# Altium schematic symbol library myLib.SchLib: 153 symbols (part 1 of 2)
Pins are listed as number, name and electrical type; pins without a type are passive.

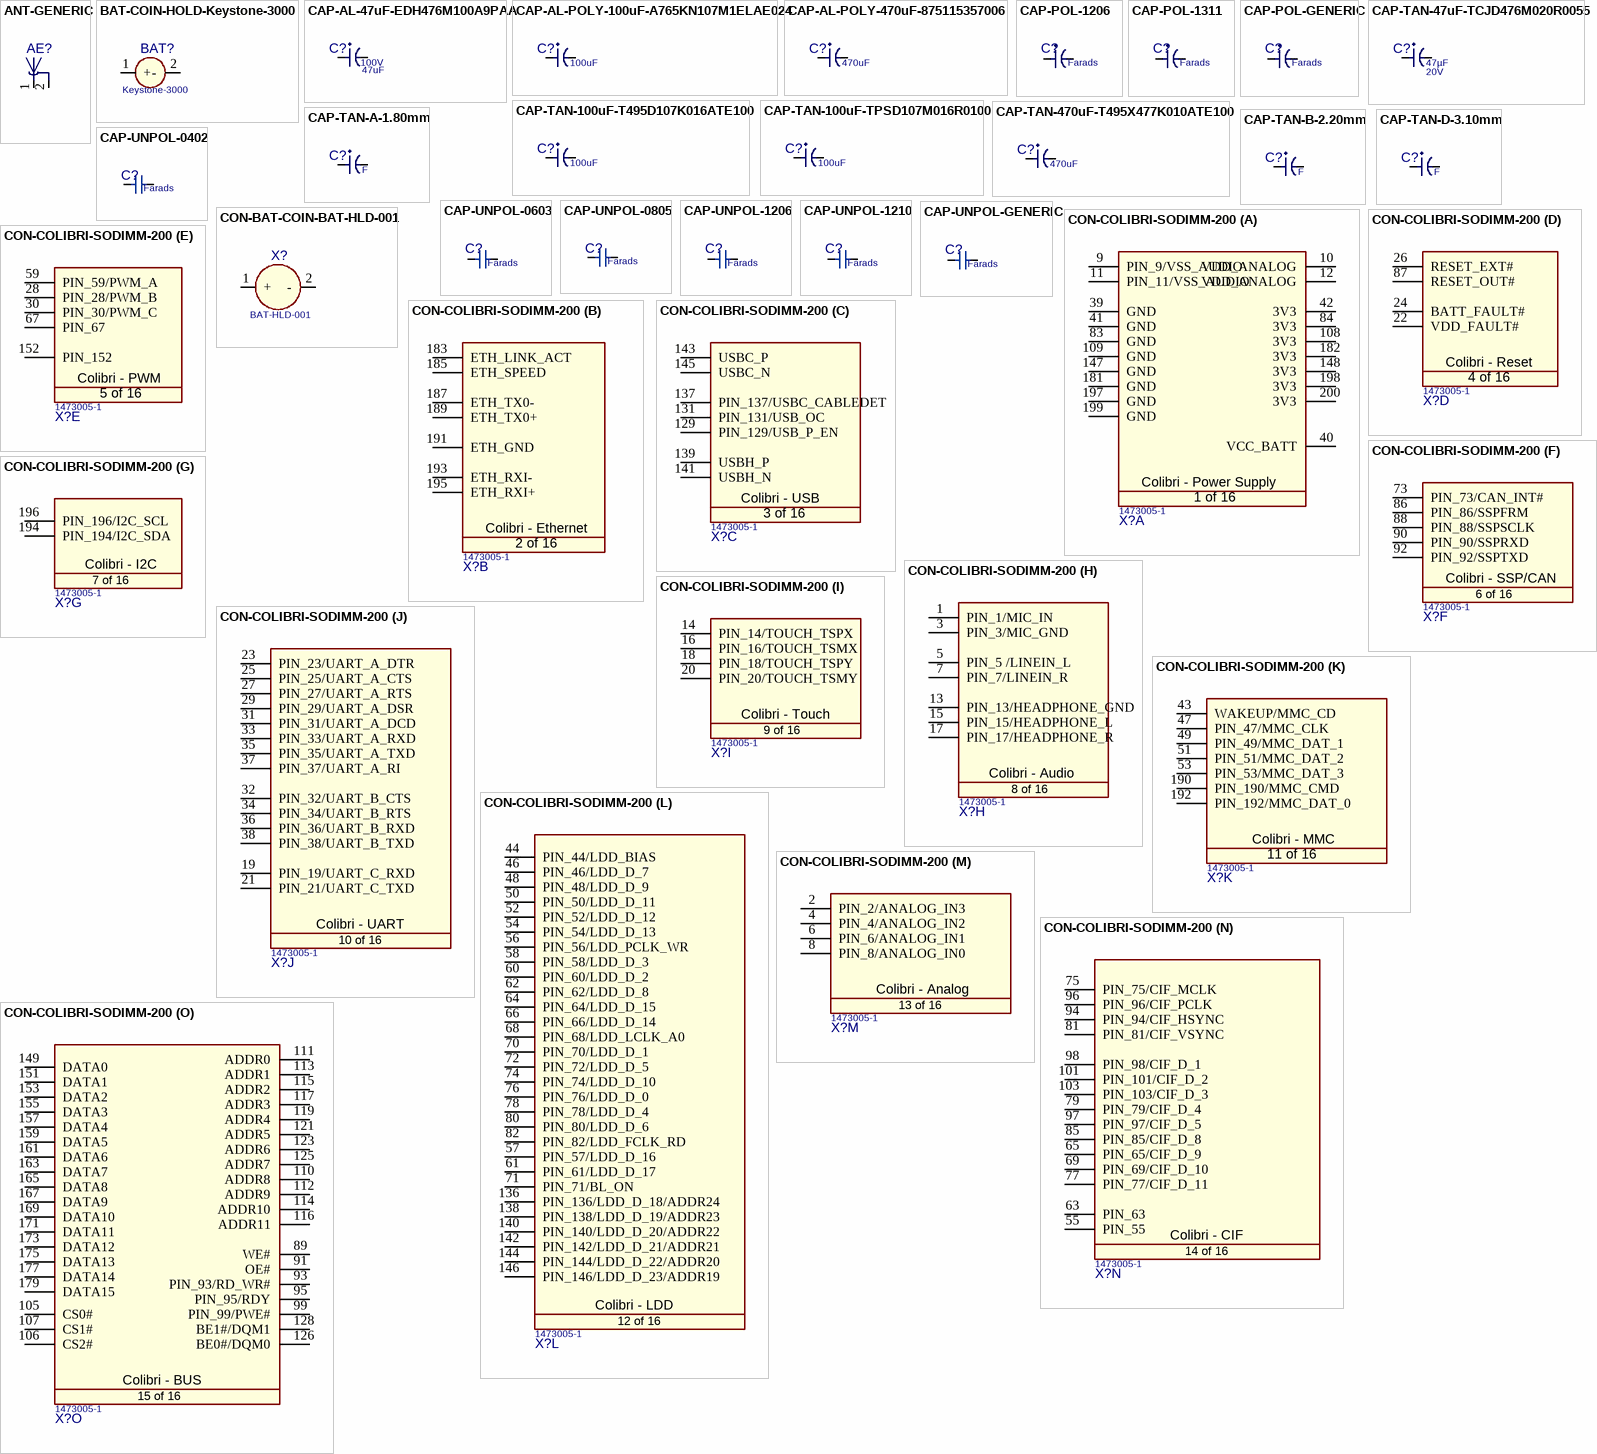
[diagram p0: symbols ANT-GENERIC to CON-COLIBRI-SODIMM-200]

## ANT-GENERIC
designator AE?
Antenna, 2 Terminal; Freq Range: f MHz
pins: 1, 2

## BAT-COIN-HOLD-Keystone-3000
designator BAT?, comment Keystone-3000
Coin Cell Battery Holder; Manufacturer: Keystone; Manufacturer Part Number: Keystone-3000
footprint BAT-COIN-HOLD-Keystone-3000 (Coin Cell Battery Holder (Keystone 3000))
pins: 1 +, 2 -

## CAP-AL-47uF-EDH476M100A9PAA
designator C?, comment Rating: 100V  (hidden comment: 47uF)
Aluminum Polymer Capacitor Radial; Manufacturer: KEMET; Manufacturer Part No.: EDH476M100A9PAA; Type: Aluminum Capacitor Radial; Tolerance: ±20%; Life: 2000 Hrs @ 105°C; Package: 0.394" Dia (10.00mm); ESR: -; Value: 47uF
footprint CAP-CAN-SMD-10mm (Size: 10.30mm x 10.30mm, Diameter: 10mm, Height: 10.5 mm)
pins: 1, 2

## CAP-AL-POLY-100uF-A765KN107M1ELAE024
designator C?, comment 100uF
Aluminum Polymer Capacitor Radial; Manufacturer: KEMET; Manufacturer Part No.: A765KN107M1ELAE024; Rating: 25V; Tolerance: 20; ESR: 0.024 ohm; Life: 2000 Hrs @ 105°C; Package: 0.315" Dia (8.00mm); Type: Aluminum Polymer Capacitor Radial; Value: 100uF
footprint CAP-CAN-SMD-8mm (Size: 8.30mm x 8.30mm, Diameter: 8mm, Height: 10mm)
pins: 1, 2

## CAP-AL-POLY-470uF-875115357006
designator C?, comment 470uF
Aluminum Polymer Capacitor Radial; Manufacturer: Wurth Electronics; Manufacturer Part No.: 875115357006; Rating: 16V; Tolerance: 20; ESR: 0.11 ohm; Life: 2000 Hrs @ 105°C; Package: 0.394" Dia (10.00mm); Type: Aluminum Polymer Capacitor Radial; Value: 470uF
footprint CAP-CAN-SMD-10mm (Size: 10.30mm x 10.30mm, Diameter: 10mm, Height: 10.5 mm)
pins: 1, 2

## CAP-POL-1206
designator C?, comment Farads
Polarised Capacitor; Rating: Volts; Tolerance: Percent/ppm; ESR: ohm; Package: 1206; Type: Type; Value: Farads
footprint CAP-POL-1206 (Molded Capacitor, 2-Leads, Body 3.2x1.6mm, IPC Medium Density)
pins: 1, 2

## CAP-POL-1311
designator C?, comment Farads
Polarised Capacitor; Rating: Volts; Tolerance: Percent/ppm; ESR: ohm; Package: 1311; Type: Type; Value: Farads
footprint CAP-POL-1311 (3528mm X 210N)
pins: 1, 2

## CAP-POL-GENERIC
designator C?, comment Farads
Polarised Capacitor; Rating: Volts; Tolerance: Percent/ppm; Package: Size; Type: Type; Value: Farads
pins: 1, 2

## CAP-TAN-47uF-TCJD476M020R0055
designator C?, comment Rating: 20V  (hidden comment: 47µF)
47µF Molded Tantalum Polymer Capacitor 20V; Manufacturer: AVX Corporation; Manufacturer Part No.: TCJD476M020R0055; Tolerance: ±20%; ESR: 55 mOhm; Life: 2000 Hrs @ 105°C; Package: D-3.10mm; Type: Tantalum; Value: 47µF
footprint CAP-TAN-D-3.10mm (Size: 7.30mm x 4.30mm, Height: 3.10mm)
pins: 1, 2

## CAP-TAN-100uF-T495D107K016ATE100
designator C?, comment 100uF
Tantalum Polymer Capacitor; Manufacturer: KEMET; Manufacturer Part No.: T495D107K016ATE100; Rating: 16V; Type: Polymer Tantalum; Tolerance: 10; ESR: 0.1 ohm; Life: 2000 @ 85C; Package: 2917-12; Value: 100uF
footprint CAP-2917-12 (EIA-7343-31)
pins: 1, 2

## CAP-TAN-100uF-TPSD107M016R0100
designator C?, comment 100uF
Tantalum Polymer Capacitor; Manufacturer: AVX Corporation; Manufacturer Part No.: TPSD107M016R0100; Rating: 16V; Type: Polymer Tantalum; Tolerance: 20; ESR: 0.1 ohm; Package: D-3.10mm; Value: 100uF
footprint CAP-TAN-D-3.10mm (Size: 7.30mm x 4.30mm, Height: 3.10mm)
pins: 1, 2

## CAP-TAN-470uF-T495X477K010ATE100
designator C?, comment 470uF
Tantalum Polymer Capacitor; Manufacturer: KEMET; Manufacturer Part No.: T495X477K010ATE100; Rating: 10V; Type: Polymer Tantalum; Tolerance: 10; ESR: 0.1 ohm; Life: 2000 @ 85C; Package: 2917-17; Value: 470uF
footprint CAP-2917-17 (EIA-7343-43)
pins: 1, 2

## CAP-TAN-A-1.80mm
designator C?, comment F
Tantalum Capacitor; Package: A-1.80mm; Type: Tantalum; Value: F
footprint CAP-TAN-A-1.80mm (Size: 3.20mm x 1.60mm, Height: 1.8mm)
pins: 1, 2

## CAP-TAN-B-2.20mm
designator C?, comment F
Tantalum Capacitor; Package: B-2.20mm; Type: Tantalum; Value: F
footprint CAP-TAN-B-2.20mm (Size: 3.50mm x 2.80mm, Height: 2.10mm)
pins: 1, 2

## CAP-TAN-D-3.10mm
designator C?, comment F
Tantalum Capacitor; Package: D-3.10mm; Type: Tantalum; Value: F
footprint CAP-TAN-D-3.10mm (Size: 7.30mm x 4.30mm, Height: 3.10mm)
pins: 1, 2

## CAP-UNPOL-0402
designator C?, comment Farads
Unpolarised Capacitor; Rating: Volts; Tolerance: Percent/ppm; Package: 0402; Type: Type; Value: Farads
footprint CAP-UNPOL-0402 (Capacitor, Generic, 0402)
pins: 1, 2

## CAP-UNPOL-0603
designator C?, comment Farads
Unpolarised Capacitor; Rating: Volts; Tolerance: Percent/ppm; Package: 0603; Type: Type; Value: Farads
footprint CAP-UNPOL-0603 (Capacitor, Generic, 0603)
pins: 1, 2

## CAP-UNPOL-0805
designator C?, comment Farads
Unpolarised Capacitor; Rating: Volts; Tolerance: Percent/ppm; Package: 0805; Type: Type; Value: Farads
footprint CAP-UNPOL-0805 (Capacitor, Generic, 0805)
pins: 1, 2

## CAP-UNPOL-1206
designator C?, comment Farads
Unpolarised Capacitor; Rating: Volts; Tolerance: Percent/ppm; Package: 1206; Type: Type; Value: Farads
footprint CAP-UNPOL-1206 (Molded Capacitor, 2-Leads, Body 3.2x1.6mm, IPC Medium Density)
pins: 1, 2

## CAP-UNPOL-1210
designator C?, comment Farads
Unpolarised Capacitor; Rating: Volts; Tolerance: Percent/ppm; Package: 1210; Type: Type; Value: Farads
footprint CAP-UNPOL-1210 (Multilayer Ceramic Capacitor)
pins: 1, 2

## CAP-UNPOL-GENERIC
designator C?, comment Farads
Unpolarised Capacitor; Rating: Volts; Tolerance: Percent/ppm; Package: Size; Type: Type; Value: Farads
pins: 1, 2

## CON-BAT-COIN-BAT-HLD-001
designator X?, comment BAT-HLD-001
Battery Holder Coin 20mm SMD; Manufacturer: Linx Technologies Inc.; Battery Cell Size: 20.0 mm; Battery Series: 2025 | 2032; No. of Cells: 1; Manufacturer Part No.: BAT-HLD-001
footprint CON-BAT-COIN-BAT-HLD-001 (Battery Holder Coin 20mm SMD)
pins: 1 + (power), 2 - (power)

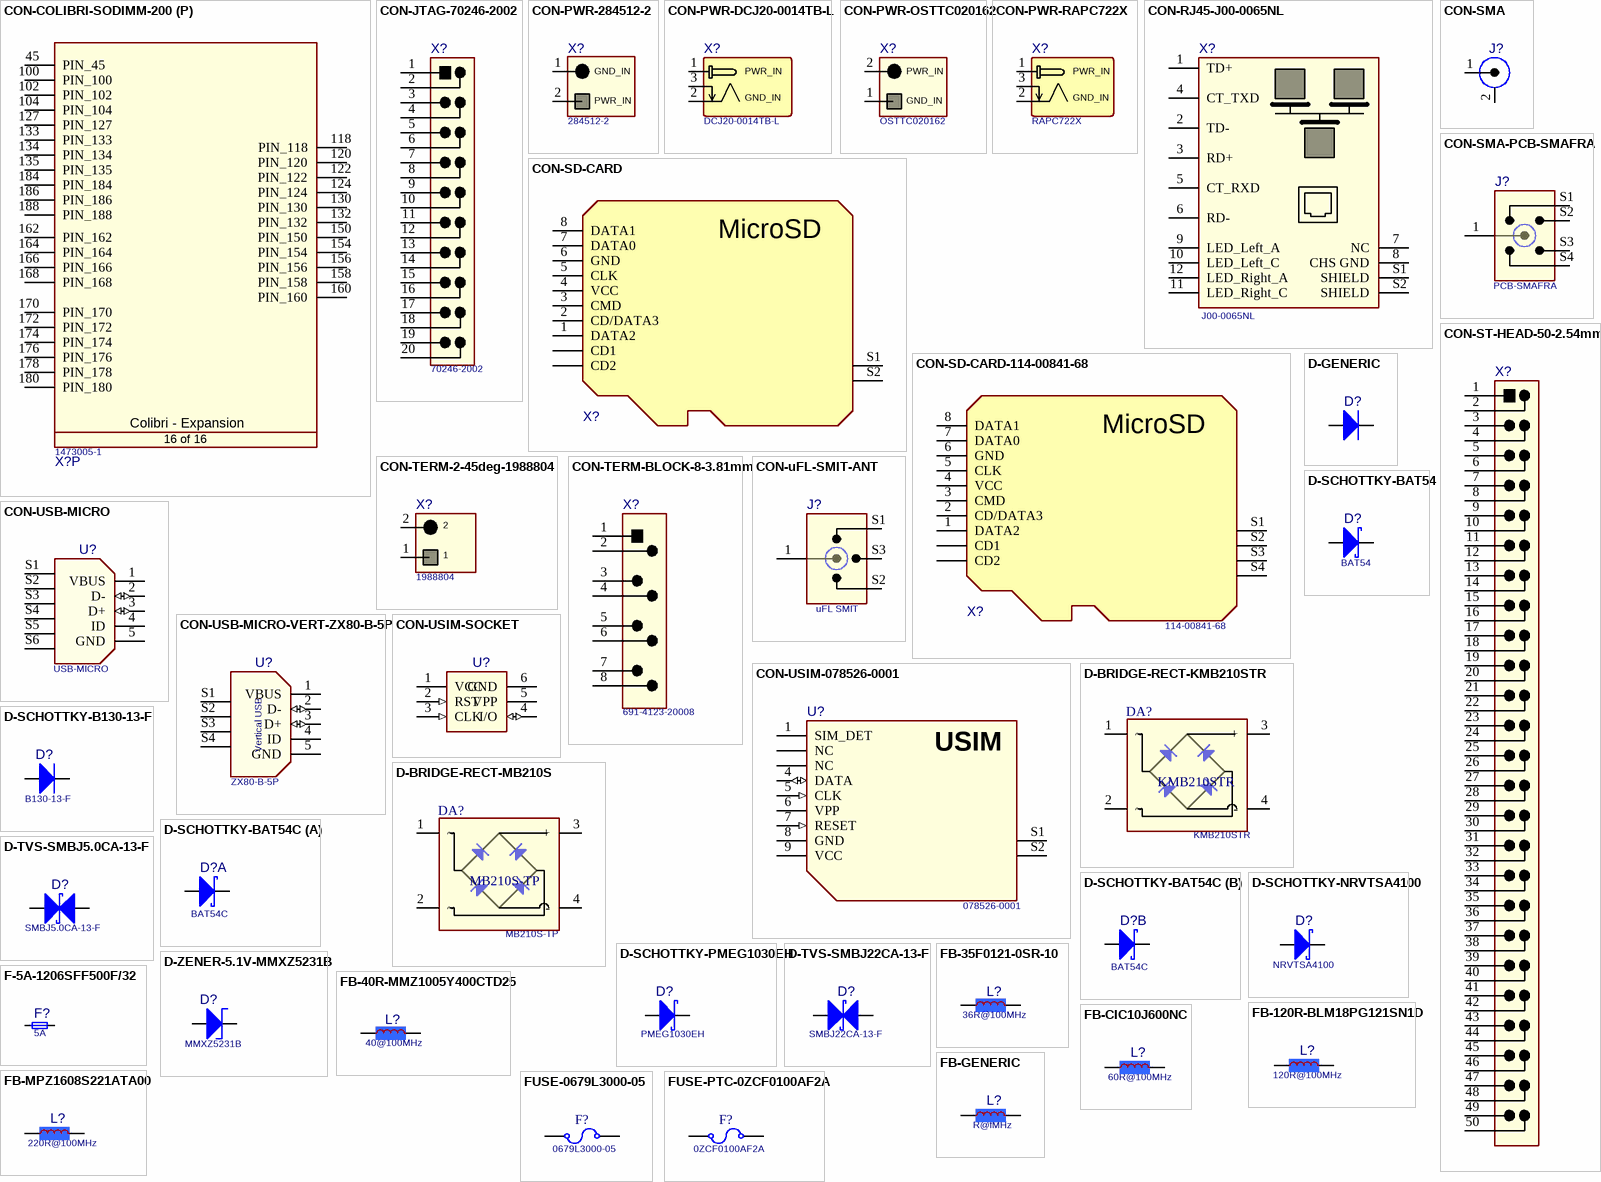
[diagram p1: symbols CON-COLIBRI-SODIMM-200 to FUSE-PTC-0ZCF0100AF2A]

## CON-COLIBRI-SODIMM-200
designator X?, comment 1473005-1
SODIMM Connector, 200 Pin; Manufacturer: Tyco; No. of ways: 200; Manufacturer Part Number: 1473005-1
footprint CON-COLIBRI-SODIMM-1473005-1 (SODIMM Connector, 200 Pin (1473005-1))
part A pins: 9 PIN_9/VSS_AUDIO, 10 VDD_ANALOG, 11 PIN_11/VSS_AUDIO, 12 VDD_ANALOG, 39 GND (power), 40 VCC_BATT (power), 41 GND (power), 42 3V3 (power), 83 GND (power), 84 3V3 (power), 108 3V3, 109 GND (power), 147 GND (power), 148 3V3, 181 GND (power), 182 3V3 (power), 197 GND (power), 198 3V3 (power), 199 GND (power), 200 3V3 (power)
part B pins: 183 ETH_LINK_ACT, 185 ETH_SPEED, 187 ETH_TX0-, 189 ETH_TX0+, 191 ETH_GND, 193 ETH_RXI-, 195 ETH_RXI+
part C pins: 129 PIN_129/USB_P_EN, 131 PIN_131/USB_OC, 137 PIN_137/USBC_CABLEDET, 139 USBH_P, 141 USBH_N, 143 USBC_P, 145 USBC_N
part D pins: 22 VDD_FAULT#, 24 BATT_FAULT#, 26 RESET_EXT#, 87 RESET_OUT#
part E pins: 28 PIN_28/PWM_B, 30 PIN_30/PWM_C, 59 PIN_59/PWM_A, 67 PIN_67, 152 PIN_152
part F pins: 73 PIN_73/CAN_INT#, 86 PIN_86/SSPFRM, 88 PIN_88/SSPSCLK, 90 PIN_90/SSPRXD, 92 PIN_92/SSPTXD
part G pins: 194 PIN_194/I2C_SDA, 196 PIN_196/I2C_SCL
part H pins: 1 PIN_1/MIC_IN, 3 PIN_3/MIC_GND, 5 PIN_5 /LINEIN_L, 7 PIN_7/LINEIN_R, 13 PIN_13/HEADPHONE_GND, 15 PIN_15/HEADPHONE_L, 17 PIN_17/HEADPHONE_R
part I pins: 14 PIN_14/TOUCH_TSPX, 16 PIN_16/TOUCH_TSMX, 18 PIN_18/TOUCH_TSPY, 20 PIN_20/TOUCH_TSMY
part J pins: 19 PIN_19/UART_C_RXD, 21 PIN_21/UART_C_TXD, 23 PIN_23/UART_A_DTR, 25 PIN_25/UART_A_CTS, 27 PIN_27/UART_A_RTS, 29 PIN_29/UART_A_DSR, 31 PIN_31/UART_A_DCD, 32 PIN_32/UART_B_CTS, 33 PIN_33/UART_A_RXD, 34 PIN_34/UART_B_RTS, 35 PIN_35/UART_A_TXD, 36 PIN_36/UART_B_RXD, 37 PIN_37/UART_A_RI, 38 PIN_38/UART_B_TXD
part K pins: 43 WAKEUP/MMC_CD, 47 PIN_47/MMC_CLK, 49 PIN_49/MMC_DAT_1, 51 PIN_51/MMC_DAT_2, 53 PIN_53/MMC_DAT_3, 190 PIN_190/MMC_CMD, 192 PIN_192/MMC_DAT_0
part L pins: 44 PIN_44/LDD_BIAS, 46 PIN_46/LDD_D_7, 48 PIN_48/LDD_D_9, 50 PIN_50/LDD_D_11, 52 PIN_52/LDD_D_12, 54 PIN_54/LDD_D_13, 56 PIN_56/LDD_PCLK_WR, 57 PIN_57/LDD_D_16, 58 PIN_58/LDD_D_3, 60 PIN_60/LDD_D_2, 61 PIN_61/LDD_D_17, 62 PIN_62/LDD_D_8, 64 PIN_64/LDD_D_15, 66 PIN_66/LDD_D_14, 68 PIN_68/LDD_LCLK_A0, 70 PIN_70/LDD_D_1, 71 PIN_71/BL_ON, 72 PIN_72/LDD_D_5, 74 PIN_74/LDD_D_10, 76 PIN_76/LDD_D_0, 78 PIN_78/LDD_D_4, 80 PIN_80/LDD_D_6, 82 PIN_82/LDD_FCLK_RD, 136 PIN_136/LDD_D_18/ADDR24, 138 PIN_138/LDD_D_19/ADDR23, 140 PIN_140/LDD_D_20/ADDR22, 142 PIN_142/LDD_D_21/ADDR21, 144 PIN_144/LDD_D_22/ADDR20, 146 PIN_146/LDD_D_23/ADDR19
part M pins: 2 PIN_2/ANALOG_IN3, 4 PIN_4/ANALOG_IN2, 6 PIN_6/ANALOG_IN1, 8 PIN_8/ANALOG_IN0
part N pins: 55 PIN_55, 63 PIN_63, 65 PIN_65/CIF_D_9, 69 PIN_69/CIF_D_10, 75 PIN_75/CIF_MCLK, 77 PIN_77/CIF_D_11, 79 PIN_79/CIF_D_4, 81 PIN_81/CIF_VSYNC, 85 PIN_85/CIF_D_8, 94 PIN_94/CIF_HSYNC, 96 PIN_96/CIF_PCLK, 97 PIN_97/CIF_D_5, 98 PIN_98/CIF_D_1, 101 PIN_101/CIF_D_2, 103 PIN_103/CIF_D_3
part O pins: 89 WE#, 91 OE#, 93 PIN_93/RD_WR#, 95 PIN_95/RDY, 99 PIN_99/PWE#, 105 CS0#, 106 CS2#, 107 CS1#, 110 ADDR8, 111 ADDR0, 112 ADDR9, 113 ADDR1, 114 ADDR10, 115 ADDR2, 116 ADDR11, 117 ADDR3, 119 ADDR4, 121 ADDR5, 123 ADDR6, 125 ADDR7, 126 BE0#/DQM0, 128 BE1#/DQM1, 149 DATA0, 151 DATA1, 153 DATA2, 155 DATA3, 157 DATA4, 159 DATA5, 161 DATA6, 163 DATA7, 165 DATA8, 167 DATA9, 169 DATA10, 171 DATA11, 173 DATA12, 175 DATA13, 177 DATA14, 179 DATA15
part P pins: 45 PIN_45, 100 PIN_100, 102 PIN_102, 104 PIN_104, 118 PIN_118, 120 PIN_120, 122 PIN_122, 124 PIN_124, 127 PIN_127, 130 PIN_130, 132 PIN_132, 133 PIN_133, 134 PIN_134, 135 PIN_135, 150 PIN_150, 154 PIN_154, 156 PIN_156, 158 PIN_158, 160 PIN_160, 162 PIN_162, 164 PIN_164, 166 PIN_166, 168 PIN_168, 170 PIN_170, 172 PIN_172, 174 PIN_174, 176 PIN_176, 178 PIN_178, 180 PIN_180, 184 PIN_184, 186 PIN_186, 188 PIN_188
part A text: Colibri - Power Supply; 1 of 16
part B text: Colibri - Ethernet; 2 of 16
part C text: Colibri - USB; 3 of 16
part D text: Colibri - Reset; 4 of 16
part E text: Colibri - PWM; 5 of 16
part F text: Colibri - SSP/CAN; 6 of 16
part G text: Colibri - I2C; 7 of 16
part H text: Colibri - Audio; 8 of 16
part I text: Colibri - Touch; 9 of 16
part J text: Colibri - UART; 10 of 16
part K text: Colibri - MMC; 11 of 16
part L text: Colibri - LDD; 12 of 16
part M text: Colibri - Analog; 13 of 16
part N text: Colibri - CIF; 14 of 16
part O text: Colibri - BUS; 15 of 16
part P text: Colibri - Expansion; 16 of 16

## CON-JTAG-70246-2002
designator X?, comment 70246-2002
Header shrouded male, 2x10 pin 2.54mm pitch; Manufacturer Name: Molex; No. of ways: 2x10; Pitch: 2.54mm; Manufacturer Part No.: 70246-2002
footprint CON-JTAG-70246-2002 (Header shrouded, 2x10 Pins, 2.54 mm pitch)
pins: 1, 2, 3, 4, 5, 6, 7, 8, 9, 10, 11, 12, 13, 14, 15, 16, 17, 18, 19, 20

## CON-PWR-284512-2
designator X?, comment 284512-2
Terminal Block Power Connector; Manufacturer: Tyco; No. of ways: 1x2; Pitch: 3.5mm; Manufacturer Part Number: 284512-2
footprint CON-PWR-284512-2 (Power Connector 3.5mm (TYCO S284512-2))
pins: 1 GND_IN, 2 PWR_IN

## CON-PWR-DCJ20-0014TB-L
designator X?, comment DCJ20-0014TB-L
Power Jack; Manufacturer: Amtek; Manufacturer Part Number: DCJ20-0014TB-L
footprint CON-PWR-DCJ20-0014TB-L (Connector, 2mm (Dia), 6.4mm(Dia), Round Power Socket)
pins: 1 GND_IN, 2 PWR_IN, 3 PWR_IN

## CON-PWR-OSTTC020162
designator X?, comment OSTTC020162
Power Connector; Manufacturer Name: OnShore; No. of ways: 1x2; Pitch: 5mm; Manufacturer Part No.: OSTTC020162
footprint CON-PWR-OSTTC020162 (Terminal Connector, TH, 5mm Pitch (OnShore OSTTC020162))
pins: 1 GND_IN (power), 2 PWR_IN (power)

## CON-PWR-RAPC722X
designator X?, comment RAPC722X
Barrel Power Connector; Manufacturer: SwitchCraft; Manufacturer Part Number: RAPC722X
footprint CON-PWR-RAPC722X (Connector, 2.1mm (Dia), 5.5mm(Dia), Round Power Socket)
pins: 1 GND_IN, 2 PWR_IN, 3 PWR_IN

## CON-RJ45-J00-0065NL
designator X?, comment J00-0065NL
RJ45 Connector, With Magnetics, Y/G LED, No EMI Tabs; Manufacturer: PulseJack; No. of ways: 12; Manufacturer Part Number: J00-0065NL
footprint CON-RJ45-J00-0065NL (RJ45 Connector with MagJack (PowerJack J00-0065NL))
pins: 1 TD+, 2 TD-, 3 RD+, 4 CT_TXD, 5 CT_RXD, 6 RD-, 7 NC, 8 CHS GND, 9 LED_Left_A, 10 LED_Left_C, 11 LED_Right_C, 12 LED_Right_A, S1 SHIELD, S2 SHIELD

## CON-SD-CARD
designator X?
Micro SD Holder Push Push CD; No. of ways: 9
pins: 1 DATA2 (power), 2 CD/DATA3, 3 CMD, 4 VCC, 5 CLK (power), 6 GND (power), 7 DATA0 (power), 8 DATA1 (power), CD1 (power), CD2 (power), S1 S, S2 S
text: MicroSD

## CON-SD-CARD-114-00841-68
designator X?, comment 114-00841-68
Micro SD Holder Push Pull CD; Manufacturer: Amphenol; No. of ways: 9; Type: Push Pull Type with Switch; Manufacturer Part Number: 114-00841-68
footprint CON-SD-114-00841-68 (MICRO SD Card Connector (Amphenol 114-00841-68))
pins: 1 DATA2 (power), 2 CD/DATA3, 3 CMD, 4 VCC, 5 CLK (power), 6 GND (power), 7 DATA0 (power), 8 DATA1 (power), CD1 (power), CD2 (power), S1 S, S2 S, S3 (power), S4 (power)
text: MicroSD

## CON-SMA
designator J?
SMA Jack
pins: 1, 2 (power)

## CON-SMA-PCB-SMAFRA
designator J?, comment PCB-SMAFRA
SMA Female Connector 90 degree; Manufacturer: Taoglas Limited; Manufacturer Part No.: PCB-SMAFRA
footprint CON-SMA-FEMALE-90 (PCB.SMAFRA.HT, SMA Connector Female)
pins: 1, S1 (power), S2 (power), S3 (power), S4 (power)

## CON-ST-HEAD-50-2.54mm
designator X?  (value not drawn)
Header, 2x25 Pins, 2.54 mm pitch; Pitch: 2.54mm; Manufacturer: *; No. of ways: 2x25; Manufacturer Part Number: *
footprint CON-ST-HEAD-50-2.54mm (Header, 2x25 Pins, 2.54 mm pitch)
pins: 1, 2, 3, 4, 5, 6, 7, 8, 9, 10, 11, 12, 13, 14, 15, 16, 17, 18, 19, 20, 21, 22, 23, 24, 25, 26, 27, 28, 29, 30, 31, 32, 33, 34, 35, 36, 37, 38, 39, 40, 41, 42, 43, 44, 45, 46, 47, 48, 49, 50

## CON-TERM-2-45deg-1988804
designator X?, comment 1988804
2 Position Terminal Block 45° (135°) Angle with Board 5.00mm Through Hole; Manufacturer Name: Phoenix Contact; No. of ways: 1x2; Pitch: 5mm; Mating Orientation: 45° (135°) Angle with Board; Manufacturer Part No.: 1988804
footprint CON-TERM-2-45deg-1988804 (Terminal Connector, TH, 5mm Pitch (OnShore OSTTC020162))
pins: 1 GND_IN (power), 2 PWR_IN (power)

## CON-TERM-BLOCK-8-3.81mm
designator X?, comment 691-4123-20008
Terminal Block Connector 8 pos 45 degree 3.81mm; Manufacturer Name: Wurth Electronics Inc.; No. of ways: 1 X 8; Angle: 45 degree with Board; Wire Termination: Screwless; Pitch: 3.81mm; Manufacturer Part No.: 691-4123-20008
footprint CON-TERM-BLOCK-8-3.81mm (Terminal Block Connector 8 pos 45 degree 3.81mm)
pins: 1, 2, 3, 4, 5, 6, 7, 8

## CON-uFL-SMIT-ANT
designator J?, comment uFL SMIT
uFL SMIT Antenna Connector; Manufacturer: Adafruit; Manufacturer Part No.: uFL SMIT
footprint CON-uFL-SMIT-ANT (Adafruit Accessories, uFL SMIT, Antenna Connector)
pins: 1, S1 (power), S2 (power), S3 (power)

## CON-USB-MICRO
designator U?, comment USB-MICRO
Molex USB B Connector
footprint CON-USB-MICRO (Micro USB Connector)
pins: 1 VBUS (power), 2 D- (io), 3 D+ (io), 4 ID, 5 GND (power), S1 SHIELD, S2 SHIELD (power), S3 SHIELD (power), S4 SHIELD (power), S5 SHIELD (power), S6 SHIELD (power)

## CON-USB-MICRO-VERT-ZX80-B-5P
designator U?, comment ZX80-B-5P
Conn RCPT USB MICRO B PCB Vertical; Manufacturer: Hirose Electric Co Ltd; Manufacturer Part No.: ZX80-B-5P
footprint CON-USB-MICRO-VERT-ZX80-B-5P (Conn RCPT USB MICRO B PCB Vertical)
pins: 1 VBUS (power), 2 D- (io), 3 D+ (io), 4 ID, 5 GND (power), S1 SHIELD, S2 SHIELD (power), S3 SHIELD (power), S4 SHIELD (power)
text: Vertical USB

## CON-USIM-078526-0001
designator U?, comment 078526-0001
USIM Socket Connector; Manufacturer: Molex; Manufacturer Part No.: 078526-0001
footprint CON-USIM-078526-0001 (SIM Card Holder, Molex, 078526-0001)
footprint CON-USIM-078526-0001 (SIM Card Holder, Molex, 078526-0001)
pins: 1 SIM_DET, 2 NC, 3 NC, 4 DATA (io), 5 CLK (in), 6 VPP (power), 7 RESET (in), 8 GND (power), 9 VCC (power), S1, S2
text: USIM

## CON-USIM-SOCKET
designator U?
USIM Socket Connector
pins: 1 VCC (power), 2 RST (in), 3 CLK (in), 4 I/O (io), 5 VPP (power), 6 GND (power)

## D-BRIDGE-RECT-KMB210STR
designator DA?, comment KMB210STR
Single Phase 2.0 A SMD Schottky Bridge Rectifier; Manufacturer: SMC Diode Solutions; Peak Reverse Votlage: 100V; Forward Voltage: 0.85V @ 2A; Manufacturer Part No.: KMB210STR
footprint D-BRIDGE-RECT-KMB210STR (Single Phase 2.0 A SMD Schottky Bridge Rectifier)
pins: 1 ~, 2 ~, 3 +, 4 -

## D-BRIDGE-RECT-MB210S
designator DA?, comment MB210S-TP
Bridge Rectifier Single Phase Schottky 100V; Manufacturer: Micro Commercial Co; Forward Voltage: 0.85V @ 2A; Peak Reverse Votlage: 100V; Manufacturer Part No.: MB210S-TP
footprint D-BRIDGE-RECT-MB210S (Bridge Rectifier Single Phase Schottky 100V)
pins: 1 ~, 2 ~, 3 +, 4 -

## D-GENERIC
designator D?
Two Terminal P-N Juntion Diode; Value: Value
pins: 1, 2

## D-SCHOTTKY-B130-13-F
designator D?, comment B130-13-F
Diode Schottky, SMD, B130-13-F, 30V, 1A; Manufacturer: Diode Inc; Manufacturer Part Number: B130-13-F
footprint D-SCHOTTKY-B130-13-F (Schottky Diode B130-13-F)
pins: 1, 2

## D-SCHOTTKY-BAT54
designator D?, comment BAT54
BAT54 Schottky Diode; Manufacturer: Philips; Manufacturer Part Number: BAT54
footprint D-SCHOTTKY-BAT54/C (BAT54 Schottky Diode)
pins: 1, 3

## D-SCHOTTKY-BAT54C
designator D?, comment BAT54C
BAT54C Schottky Diode; Manufacturer: Philips; Manufacturer Part Number: BAT54C
footprint D-SCHOTTKY-BAT54/C (BAT54 Schottky Diode)
part A pins: 1, 3
part B pins: 2, 3

## D-SCHOTTKY-NRVTSA4100
designator D?, comment NRVTSA4100
NRVTSA4100 Schottky Diode; Manufacturer: On Semiconductor; Manufacturer Part Number: NRVTSA4100
footprint D-Schottky-NRVTSA4100 (Diode, SMD)
pins: 1, 3

## D-SCHOTTKY-PMEG1030EH
designator D?, comment PMEG1030EH
PMEG1030EH Schottky Diode; Manufacturer: NXP; Manufacturer Part Number: PMEG1030EH
footprint D-Schottky-PMEG1030EH (Diode, SMD (PMEG1030EH))
pins: 1, 2

## D-TVS-SMBJ5.0CA-13-F
designator D?, comment SMBJ5.0CA-13-F
Bidirectional ESD protection; Manufacturer: Diode Inc; Manufacturer Part Number: SMBJ5.0CA-13-F
footprint D-TVS-SMBJ5.0CA-13-F (TVS Diode (SMBJ22CA-13-F))
pins: 1 Cathode, 2 Anode

## D-TVS-SMBJ22CA-13-F
designator D?  Manufacturer Part No.: SMBJ22CA-13-F
Bidirectional ESD protection (TVS Diode); Manufacturer: Diode Inc; Max. Claming Voltage: 35.5V
footprint D-TVS-SMBJ22CA-13-F (TVS Diode (SMBJ22CA-13-F))
pins: 1 Cathode, 2 Anode

## D-ZENER-5.1V-MMXZ5231B
designator D?, comment MMXZ5231B
Zener Diode, 5.1V, 200mW, ±5%; Manufacturer: Micro Commercial; Manufacturer Part Number: MMXZ5231B
footprint D-ZENER-5.1V-MMXZ5231B
pins: 1, 3

## F-5A-1206SFF500F/32
designator F?, comment value 5A  (hidden comment: 1206SFF500F/32)
Fuse Fast Blow SMD 1206SFF500F/32  5A 1206; Manufacturer Name: TE; Voltage: 30V; Manufacturer Part No.: 1206SFF500F/32
footprint F-5A-1206SFF500F/32 (FUSE SMD 1206 5A (1206SFF500F/32))
pins: 1, 2

## FB-35F0121-0SR-10
designator L?, comment 36R@100MHz
Power Supply FB 10A; Manufacturer Part Number: 35F0121-0SR-10; Manufacturer: Laird; Tolerance: 25%; R at DC: 0.00075; Rating: 10A; Value: 36R@100MHz
footprint FB-35F0121-0SR-10 (Power supply FB 10A (Laird 35F0121-0SR-10))
pins: 1, 2

## FB-40R-MMZ1005Y400CTD25
designator L?, comment 40@100MHz
Ferrite Bead; Manufacturer: TDK; Manufacturer Part No.: MMZ1005Y400CTD25; Rating: 550mA; Tolerance: 25%; R at DC: 100 mOhms; Value: 40@100MHz
footprint L-0402 (Inductor, Generic, 0402)
pins: 1, 2

## FB-120R-BLM18PG121SN1D
designator L?, comment 120R@100MHz
Ferrite Bead BLM18PG121SN1D; Manufacturer: Murata Electronics; Rating: 2A; Tolerance: +-25%; R at DC: 0.05; Manufacturer Part No.: BLM18PG121SN1D; Value: 120R@100MHz
footprint L-0603 (Inductor, Generic, 0603)
pins: 1, 2

## FB-CIC10J600NC
designator L?, comment 60R@100MHz
Ferrite Bead CIC10J600NC; Manufacturer: Samsung Electro-Mechanics; Rating: 2A; Tolerance: +-25%; R at DC: 0.05R; Manufacturer Part No.: CIC10J600NC; Value: 60R@100MHz
footprint L-0603 (Inductor, Generic, 0603)
pins: 1, 2

## FB-GENERIC
designator L?, comment R@fMHz
Ferrite Bead; Rating: amp; Tolerance: ppm; Value: R@fMHz
pins: 1, 2

## FB-MPZ1608S221ATA00
designator L?, comment 220R@100MHz
Ferrite Bead MPZ1608S221ATA00; Manufacturer: TDK Corporation; Rating: 2.2A; Tolerance: +-25%; R at DC: 0.05; Manufacturer Part No.: MPZ1608S221ATA00; Value: 220R@100MHz
footprint L-0603 (Inductor, Generic, 0603)
pins: 1, 2

## FUSE-0679L3000-05
designator F?, comment 0679L3000-05
Fuse SMD 3A 125 Vac/Vdc; Manufacturer: Bel Fuse Inc.; Vdc: 125V; DCR: 0.026 R; Response Time: Fast; I2t: 1.8; Vac: 125V; Rated Current: 3A; Manufacturer Part No.: 0679L3000-05
footprint FUSE-0679L3000-05
pins: 1, 2

## FUSE-PTC-0ZCF0100AF2A
designator F?, comment 0ZCF0100AF2A
Polymeric PTC Resettable Fuse 60V 1A; Manufacturer: Bel Fuse Inc.; Imax: 100A; Trip Current: 2A; Vmax: 60V; Ih: 1A; Manufacturer Part No.: 0ZCF0100AF2A
footprint FUSE-PTC-0ZCF0100AF2A (Polymeric PTC Resettable Fuse 60V 1A)
pins: 1, 2

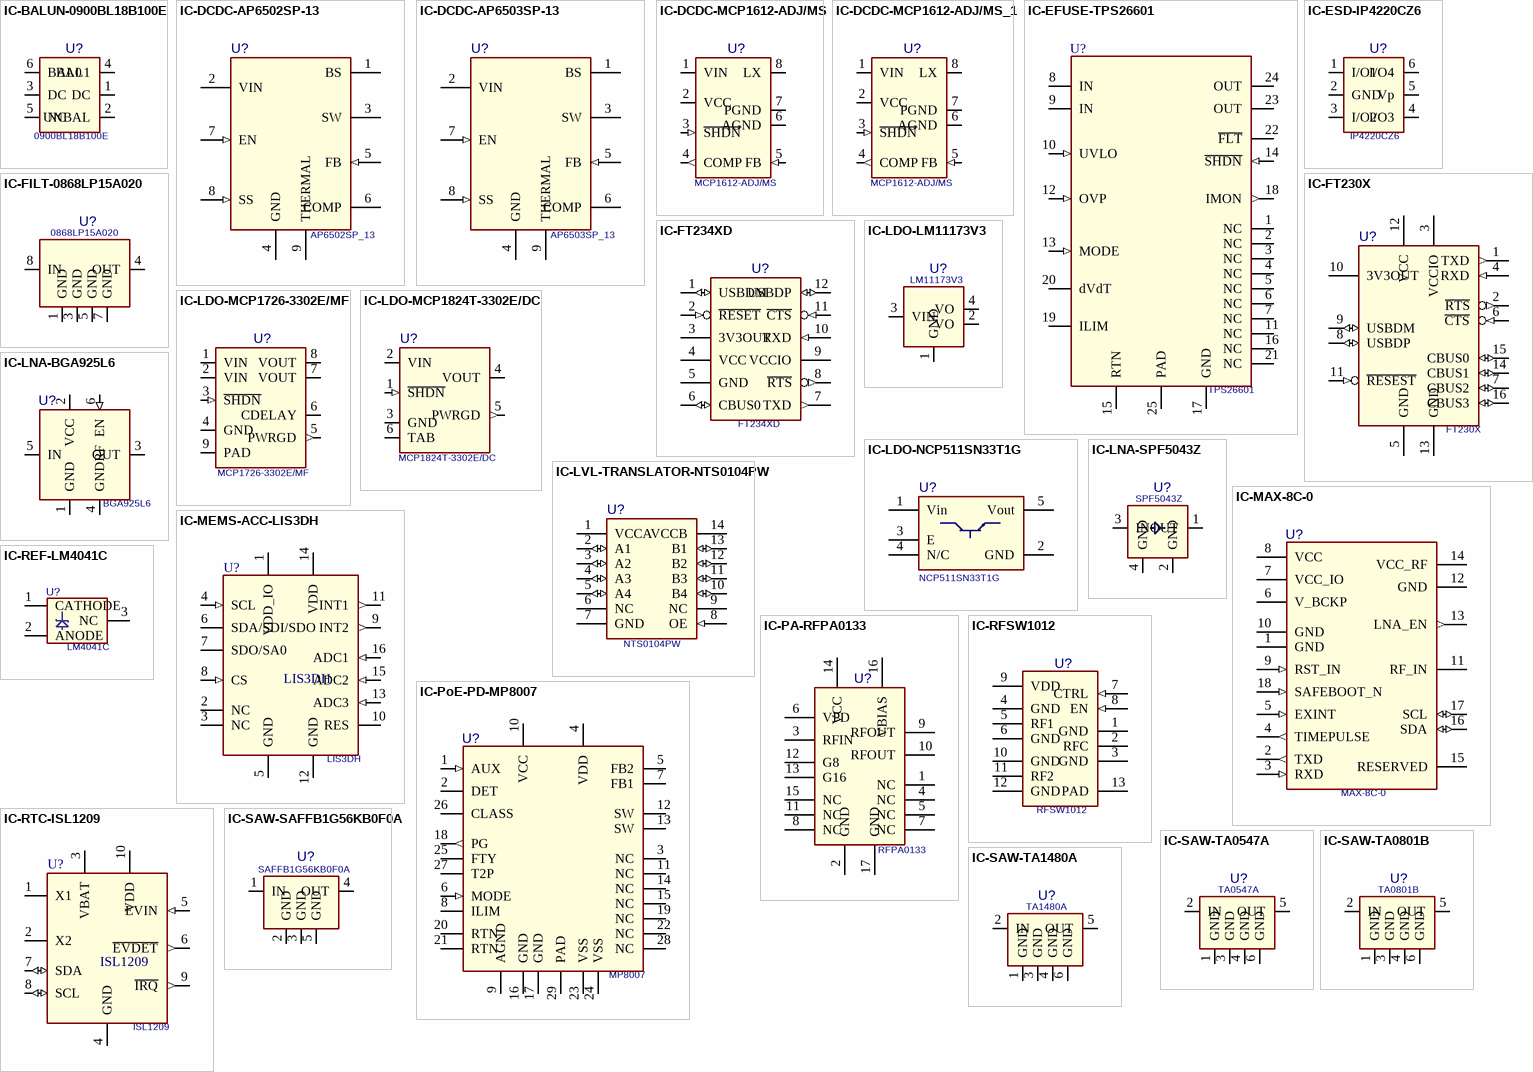
[diagram p2: symbols IC-BALUN-0900BL18B100E to IC-SAW-TA1480A]

## IC-BALUN-0900BL18B100E
designator U?, comment 0900BL18B100E
900 MHz Balun; Manufacturer: Johanson Technology Inc.; Manufacturer Part No.: 0900BL18B100E
footprint IC-BALUN-0900BL18B100E (900 MHz Balun)
pins: 1 DC (power), 2 UNBAL (power), 3 DC (power), 4 BAL1, 5 NC, 6 BAL0

## IC-DCDC-AP6502SP-13
designator U?, comment AP6502SP_13
Sync DC/DC Buck Converter, 2A, 340KHz; Manufacturer: Diode Inc; Manufacturer Part Number: AP6502SP_13
pins: 1 BS (power), 2 VIN (power), 3 SW (power), 4 GND (power), 5 FB (in), 6 COMP (power), 7 EN (in), 8 SS (in), 9 THERMAL

## IC-DCDC-AP6503SP-13
designator U?, comment AP6503SP_13
Sync DC/DC Buck Converter, 3A, 340KHz; Manufacturer: Diode Inc; Manufacturer Part Number: AP6503SP_13
footprint IC-DCDC-AP6503SP-13 (340kHz 3A Synch. DC/DC Buck Converter (AP6503SP-13))
pins: 1 BS (power), 2 VIN (power), 3 SW (power), 4 GND (power), 5 FB (in), 6 COMP (power), 7 EN (in), 8 SS (in), 9 THERMAL

## IC-DCDC-MCP1612-ADJ/MS
designator U?  Manufacturer Part No.: MCP1612-ADJ/MS  (hidden comment: IC-DCDC-MCP1612-ADJ/MS)
Adj Switched Buck Regulator; Manufacturer: Microchip; Max. Output Current: amp
footprint IC-DCDC-MCP1612-ADJ/MS (Adj Switched Buck Regulator)
pins: 1 VIN (power), 2 VCC (power), 3 ~{SHDN} (in), 4 COMP (out), 5 FB (in), 6 AGND (power), 7 PGND (power), 8 LX (power)

## IC-DCDC-MCP1612-ADJ/MS_1
designator U?, comment Manufacturer Part No.: MCP1612-ADJ/MS  (hidden comment: IC-DCDC-MCP1612-ADJ/MS)
Adj Switched Buck Regulator; Manufacturer: Microchip; Max. Output Current: amp
footprint IC-DCDC-MCP1612-ADJ/MS (Adj Switched Buck Regulator)
pins: 1 VIN (power), 2 VCC (power), 3 ~{SHDN} (in), 4 COMP (out), 5 FB (in), 6 AGND (power), 7 PGND (power), 8 LX (power)

## IC-EFUSE-TPS26601
designator U?, comment TPS26601
TI eFuse Power Management IC; Manufacturer: TI; Manufacturer Part No.: TPS26601
footprint IC-eFUSE-TPS26601 (TI eFuse Power Management)
pins: 1 NC, 2 NC, 3 NC, 4 NC, 5 NC, 6 NC, 7 NC, 8 IN (power), 9 IN (power), 10 UVLO (in), 11 NC, 12 OVP (in), 13 MODE (in), 14 ~{SHDN} (in), 15 RTN (power), 16 NC, 17 GND (power), 18 IMON (out), 19 ILIM, 20 dVdT, 21 NC, 22 ~{FLT} (oc), 23 OUT (power), 24 OUT (power), 25 PAD

## IC-ESD-IP4220CZ6
designator U?, comment IP4220CZ6
Anti-ESD Diode IC; Manufacturer: Nexperia; Manufacturer Part No.: IP4220CZ6
footprint IC-ESD-IP4220CZ6 (Anti-ESD Diode IC (IP4220CZ6))
pins: 1 I/O1, 2 GND (power), 3 I/O2, 4 I/O3, 5 Vp (power), 6 I/O4

## IC-FILT-0868LP15A020
designator U?, comment 0868LP15A020
868 MHz Low Pass Filter; Manufacturer: Johnson Tech.; Manufacturer Part No.: 0868LP15A020
footprint IC-FILT-0868LP15A020 (868 MHz Low Pass Filter)
pins: 1 GND (power), 2 NC hidden, 3 GND (power), 4 OUT, 5 GND (power), 6 NC hidden, 7 GND (power), 8 IN

## IC-FT230X
designator U?, comment FT230X
USB-UART Bridge; Manufacturer: FTDI; Manufacturer Part No.: FT230X
footprint IC-FT230X
pins: 1 TXD (out), 2 ~{RTS} (out), 3 VCCIO (power), 4 RXD (in), 5 GND (power), 6 ~{CTS} (in), 7 CBUS2 (io), 8 USBDP (io), 9 USBDM (io), 10 3V3OUT (power), 11 ~{RESEST} (in), 12 VCC (power), 13 GND (power), 14 CBUS1 (io), 15 CBUS0 (io), 16 CBUS3 (io)

## IC-FT234XD
designator U?, comment FT234XD
USB-UART Bridge; Manufacturer: FTDI; Manufacturer Part No.: FT234XD
footprint IC-FT234XD (USB-UART Bridge (FT234XD))
pins: 1 USBDM (io), 2 ~{RESET} (in), 3 3V3OUT (power), 4 VCC (power), 5 GND (power), 6 CBUS0 (io), 7 TXD (out), 8 ~{RTS} (out), 9 VCCIO (power), 10 RXD (in), 11 ~{CTS} (in), 12 USBDP (io)

## IC-LDO-LM11173V3
designator U?, comment LM11173V3
3.3V Linear Voltage Regulator; Manufacturer: Texas; Max. Output Current: 500mA; Output Voltage Range: 3.3V; Manufacturer Part No.: LM11173V3
footprint IC-LD0-LM11173V3 (LDO, 3V3 (LM11173V3))
pins: 1 GND (power), 2 VO (power), 3 VIN (power), 4 VO (power)

## IC-LDO-MCP1726-3302E/MF
designator U?, comment MCP1726-3302E/MF
Low Quiescent Current LDO Regulator; Manufacturer: Microchip; Output Voltage Range: 0.8V - 5.0V; Max. Output Current: 1A; Manufacturer Part No.: MCP1726-3302E/MF
footprint IC-LDO-MCP1726-3302E/MF (Low Quiescent Current LDO Regulator)
pins: 1 VIN (power), 2 VIN (power), 3 ~{SHDN} (in), 4 GND (power), 5 PWRGD (out), 6 CDELAY, 7 VOUT (power), 8 VOUT (power), 9 PAD

## IC-LDO-MCP1824T-3302E/DC
designator U?, comment MCP1824T-3302E/DC
Low Quiescent Current LDO Regulator; Manufacturer: Microchip; Output volrage Range: 0.8 - 5.0V; Max. Output Current: 300mA; Manufacturer Part No.: MCP1824T-3302E/DC
footprint IC-LDO-MCP1824T-3302E/DC (SOT223, 3V3 Fixed Vout)
pins: 1 ~{SHDN} (in), 2 VIN (power), 3 GND (power), 4 VOUT (power), 5 PWRGD (out), 6 TAB (power)

## IC-LDO-NCP511SN33T1G
designator U?, comment NCP511SN33T1G
NCP511SN33T1G LDO Regulator; Manufacturer: ON Semiconductor; Manufacturer Part Number: NCP511SN33T1G
pins: 1 Vin, 2 GND, 3 E, 4 N/C, 5 Vout

## IC-LNA-BGA925L6
designator U?, comment BGA925L6
1550 - 1615 MHz Low-Noise Amplifier; Manufacturer: Infineon; Manufacturer Part No.: BGA925L6
footprint IC-LNA-BGA925L6 (1550 - 1615 MHz Low-Noise Amplifier)
pins: 1 GND (power), 2 VCC (power), 3 OUT, 4 GNDRF (power), 5 IN, 6 EN (in)

## IC-LNA-SPF5043Z
designator U?, comment SPF5043Z
50 – 4000 MHz Low-Noise Amplifier; Manufacturer: Qorvo; Manufacturer Part No.: SPF5043Z
footprint IC-LNA-SPF5043Z
pins: 1 OUT, 2 GND (power), 3 IN, 4 GND (power)

## IC-LVL-TRANSLATOR-NTS0104PW
designator U?, comment NTS0104PW
Open Drain, Auto-Direction Sensing, Level Translator; Manufacturer: NXP; Manufacturer Part Number: NTS0104PW
footprint IC-LVL-TRANSLATOR-NTS0104PW (Level Translator)
pins: 1 VCCA (power), 2 A1 (io), 3 A2 (io), 4 A3 (io), 5 A4 (io), 6 NC, 7 GND (power), 8 OE (in), 9 NC, 10 B4 (io), 11 B3 (io), 12 B2 (io), 13 B1 (io), 14 VCCB (power)

## IC-MAX-8C-0
designator U?, comment MAX-8C-0
UBlox GPS MAX-8C-0; Manufacturer: UBlox; Manufacturer Part No.: MAX-8C-0
footprint IC-MAX-8C-0
pins: 1 GND (power), 2 TXD (out), 3 RXD (in), 4 TIMEPULSE (out), 5 EXINT (in), 6 V_BCKP (power), 7 VCC_IO (power), 8 VCC (power), 9 RST_IN (in), 10 GND (power), 11 RF_IN, 12 GND (power), 13 LNA_EN (out), 14 VCC_RF (power), 15 RESERVED, 16 SDA (io), 17 SCL (io), 18 SAFEBOOT_N (in)

## IC-MEMS-ACC-LIS3DH
designator U?, comment LIS3DH
Accelerometer X, Y, Z Axis ±2g, 4g, 8g, 16g 0.5Hz ~ 625Hz; Manufacturer: STMicroelectronics; Manufacturer Part No.: LIS3DH
footprint IC-MEMS-ACC-LIS3DH (Accelerometer X, Y, Z Axis ±2g, 4g, 8g, 16g 0.5Hz ~ 625Hz)
pins: 1 VDD_IO (power), 2 NC, 3 NC, 4 SCL (in), 5 GND (power), 6 SDA/SDI/SDO, 7 SDO/SA0, 8 CS (in), 9 INT2 (out), 10 RES, 11 INT1 (out), 12 GND (power), 13 ADC3 (in), 14 VDD (power), 15 ADC2 (in), 16 ADC1 (in)

## IC-PA-RFPA0133
designator U?, comment RFPA0133
Programmable Power Amplifier; Manufacturer: Qorvo; Manufacturer Part No.: RFPA0133
footprint IC-PA-RFPA0133 (Programmable Power Amplifier)
pins: 1 NC, 2 GND (power), 3 RFIN, 4 NC, 5 NC, 6 VPD, 7 NC, 8 NC, 9 RFOUT, 10 RFOUT, 11 NC, 12 G8, 13 G16, 14 VCC (power), 15 NC, 16 VBIAS (power), 17 GND

## IC-PoE-PD-MP8007
designator U?, comment MP8007
PoE Switched Mode Supply; Manufacturer: MPS; Max. Output Current: 3A; Manufacturer Part No.: MP8007
footprint IC-PoE-PD-MP8007 (PoE PD interface with 13W DCDC Converter)
pins: 1 AUX (in), 2 DET, 3 NC, 4 VDD (power), 5 FB2, 6 MODE (in), 7 FB1, 8 ILIM, 9 AGND (power), 10 VCC (power), 11 NC, 12 SW, 13 SW, 14 NC, 15 NC, 16 GND (power), 17 GND (power), 18 PG (out), 19 NC, 20 RTN, 21 RTN, 22 NC, 23 VSS (power), 24 VSS (power), 25 FTY, 26 CLASS, 27 T2P (oc), 28 NC, 29 PAD

## IC-REF-LM4041C
designator U?, comment LM4041C
1.225-V Fixed Outputs Shunt Voltage Reference; Manufacturer: Texas; Output Voltage Range: 1.225V; Manufacturer Part No.: LM4041C
footprint IC-REF-LM4041C (1.225-V Fixed and Adjustable Outputs ()LM4041C)
pins: 1 CATHODE, 2 ANODE, 3 NC

## IC-RFSW1012
designator U?, comment RFSW1012
RF SPDT Switch; Manufacturer: Qorvo; Manufacturer Part No.: RFSW1012
footprint IC-RFSW1012 (RF SPDT Switch)
pins: 1 GND (power), 2 RFC, 3 GND (power), 4 GND (power), 5 RF1, 6 GND (power), 7 CTRL (in), 8 EN (in), 9 VDD (power), 10 GND (power), 11 RF2, 12 GND (power), 13 PAD (power)

## IC-RTC-ISL1209
designator U?, comment ISL1209
Real Time Clock IC, Time Event Recorder I²C, 2-Wire Serial; Manufacturer: Renesas Electronics America Inc.; Features: Alarm, Leap Year, SRAM, Event Detection; Manufacturer Part No.: ISL1209
footprint IC-RTC-ISL1209 (Real Time Clock IC, Time Event Recorder I²C, 2-Wire Serial)
pins: 1 X1, 2 X2, 3 VBAT (power), 4 GND (power), 5 EVIN (in), 6 ~{EVDET} (out), 7 SDA (io), 8 SCL (io), 9 ~{IRQ} (out), 10 VDD (power)

## IC-SAW-SAFFB1G56KB0F0A
designator U?, comment SAFFB1G56KB0F0A
SAW Filter; Manufacturer: Murata; Manufacturer Part No.: SAFFB1G56KB0F0A
footprint IC-SAW-SAFFB1G56KB0F0A (SAW Filter)
pins: 1 IN, 2 GND (power), 3 GND (power), 4 OUT (oc), 5 GND (power)

## IC-SAW-TA0547A
designator U?, comment TA0547A
SAW Filter 860 - 875 MHz; Manufacturer: Tai-Saw; Manufacturer Part No.: TA0547A
pins: 1 GND (power), 2 IN, 3 GND (power), 4 GND (power), 5 OUT, 6 GND (power)

## IC-SAW-TA0801B
designator U?, comment TA0801B
SAW Filter, 863 - 870 MHz; Manufacturer: Tai-Saw; Manufacturer Part No.: TA0801B
footprint IC-SAW-TA0801B
pins: 1 GND (power), 2 IN, 3 GND (power), 4 GND (power), 5 OUT, 6 GND (power)

## IC-SAW-TA1480A
designator U?, comment TA1480A
SAW Filter, 865 - 867 MHz; Manufacturer: Tai-Saw; Manufacturer Part No.: TA1480A
footprint IC-SAW-TA1480A
pins: 1 GND (power), 2 IN, 3 GND (power), 4 GND (power), 5 OUT, 6 GND (power)

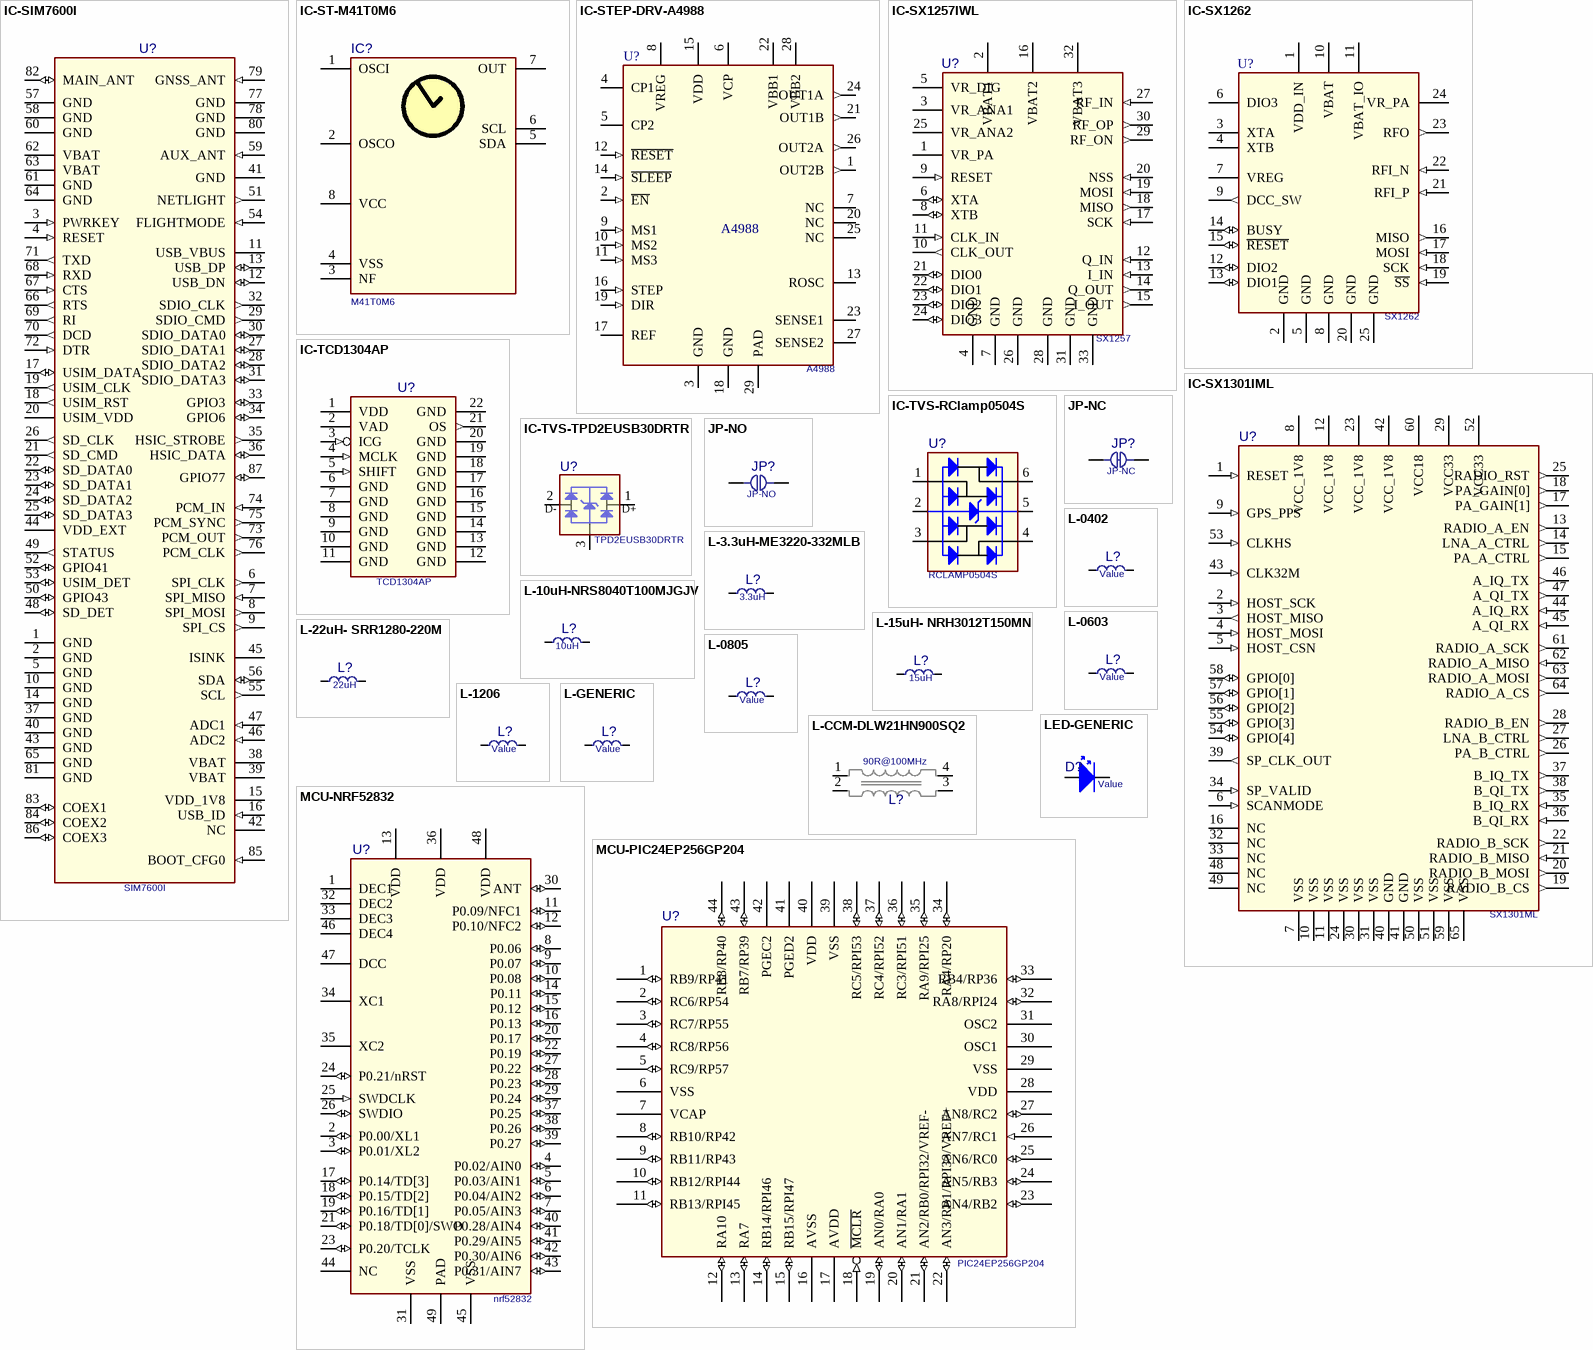
[diagram p3: symbols IC-SIM7600I to MCU-PIC24EP256GP204]

## IC-SIM7600I
designator U?, comment SIM7600I
4G Module; Manufacturer: SIMCOM; Manufacturer Part No.: SIM7600I
footprint IC-SIM7600I
pins: 1 GND (power), 2 GND (power), 3 PWRKEY (in), 4 RESET (in), 5 GND (power), 6 SPI_CLK (out), 7 SPI_MISO (in), 8 SPI_MOSI (out), 9 SPI_CS (out), 10 GND (power), 11 USB_VBUS (power), 12 USB_DN (io), 13 USB_DP (io), 14 GND (power), 15 VDD_1V8 (power), 16 USB_ID (in), 17 USIM_DATA (io), 18 USIM_RST (out), 19 USIM_CLK (out), 20 USIM_VDD (power), 21 SD_CMD (out), 22 SD_DATA0 (io), 23 SD_DATA1 (io), 24 SD_DATA2 (io), 25 SD_DATA3 (io), 26 SD_CLK (out), 27 SDIO_DATA1 (io), 28 SDIO_DATA2 (io), 29 SDIO_CMD (out), 30 SDIO_DATA0 (io), 31 SDIO_DATA3 (io), 32 SDIO_CLK (out), 33 GPIO3 (io), 34 GPIO6 (io), 35 HSIC_STROBE (out), 36 HSIC_DATA (io), 37 GND (power), 38 VBAT (power), 39 VBAT (power), 40 GND (power), 41 GND (power), 42 NC, 43 GND (power), 44 VDD_EXT (power), 45 ISINK (power), 46 ADC2 (in), 47 ADC1 (in), 48 SD_DET (io), 49 STATUS (out), 50 GPIO43 (io), 51 NETLIGHT (out), 52 GPIO41 (io), 53 USIM_DET (io), 54 FLIGHTMODE (in), 55 SCL (out), 56 SDA (io), 57 GND (power), 58 GND (power), 59 AUX_ANT (in), 60 GND (power), 61 GND (power), 62 VBAT (power), 63 VBAT (power), 64 GND (power), 65 GND (power), 66 RTS (out), 67 CTS (in), 68 RXD (in), 69 RI (out), 70 DCD (out), 71 TXD (out), 72 DTR (in), 73 PCM_OUT (out), 74 PCM_IN (in), 75 PCM_SYNC (out), 76 PCM_CLK (out), 77 GND (power), 78 GND (power), 79 GNSS_ANT (in), 80 GND (power), 81 GND (power), 82 MAIN_ANT (io), 83 COEX1 (io), 84 COEX2 (io), 85 BOOT_CFG0 (in), 86 COEX3 (io), 87 GPIO77 (io)

## IC-ST-M41T0M6
designator IC?, comment M41T0M6
RTC M41T0M6; Manufacturer: ST; Manufacturer Part Number: M41T0M6
pins: 1 OSCI, 2 OSCO, 3 NF, 4 VSS, 5 SDA, 6 SCL, 7 OUT, 8 VCC

## IC-STEP-DRV-A4988
designator U?, comment A4988
Microstepping Driver with Translator  And Overcurrent Protection; Manufacturer: Allegro; Manufacturer Part No.: A4988
footprint IC-STEP-DRV-A4988 (28-Pin QFN with Exposed Thermal Pad)
pins: 1 OUT2B (out), 2 ~{EN} (in), 3 GND (power), 4 CP1, 5 CP2, 6 VCP, 7 NC, 8 VREG (power), 9 MS1 (in), 10 MS2 (in), 11 MS3 (in), 12 ~{RESET} (in), 13 ROSC, 14 ~{SLEEP} (in), 15 VDD (power), 16 STEP (in), 17 REF, 18 GND (power), 19 DIR (in), 20 NC, 21 OUT1B (out), 22 VBB1 (power), 23 SENSE1, 24 OUT1A (out), 25 NC, 26 OUT2A (out), 27 SENSE2, 28 VBB2 (power), 29 PAD

## IC-SX1257IWL
designator U?, comment SX1257
Semtech LoRa Module; Manufacturer: Semtech; Manufacturer Part No.: SX1257
footprint IC-SX1257IWL (Semtech LoRa Transceiver (SX1257))
pins: 1 VR_PA, 2 VBAT1 (power), 3 VR_ANA1, 4 GND (power), 5 VR_DIG, 6 XTA (io), 7 GND (power), 8 XTB (io), 9 RESET (in), 10 CLK_OUT (out), 11 CLK_IN (in), 12 Q_IN (in), 13 I_IN (in), 14 Q_OUT (out), 15 I_OUT (out), 16 VBAT2 (power), 17 SCK (in), 18 MISO (out), 19 MOSI (in), 20 NSS (in), 21 DIO0 (io), 22 DIO1 (io), 23 DIO2 (io), 24 DIO3 (io), 25 VR_ANA2, 26 GND (power), 27 RF_IN (in), 28 GND (power), 29 RF_ON (out), 30 RF_OP (out), 31 GND (power), 32 VBAT3 (power), 33 GND (power)

## IC-SX1262
designator U?, comment SX1262
SX1262 sub-GHz RF Transceiver; Manufacturer: Semtech; Manufacturer Part No.: SX1262
footprint IC-SX1262 (SX1262 sub-GHz RF Transceiver)
pins: 1 VDD_IN (power), 2 GND (power), 3 XTA, 4 XTB, 5 GND (power), 6 DIO3, 7 VREG (power), 8 GND (power), 9 DCC_SW (out), 10 VBAT (power), 11 VBAT_IO (power), 12 DIO2 (io), 13 DIO1 (io), 14 BUSY (io), 15 ~{RESET} (io), 16 MISO (out), 17 MOSI (in), 18 SCK (in), 19 ~{SS} (in), 20 GND (power), 21 RFI_P (in), 22 RFI_N (in), 23 RFO (out), 24 VR_PA (power), 25 GND (power)

## IC-SX1301IML
designator U?, comment SX1301ML
LoRa Concentrator Module; Manufacturer: Semtech; Manufacturer Part No.: SX1301ML
footprint IC-SX1301IML (Semtech LoRa Concentrator IC (SX1301))
pins: 1 RESET (in), 2 HOST_SCK (in), 3 HOST_MISO (out), 4 HOST_MOSI (in), 5 HOST_CSN (in), 6 SCANMODE (in), 7 VSS (power), 8 VCC_1V8 (power), 9 GPS_PPS (in), 10 VSS (power), 11 VSS (power), 12 VCC_1V8 (power), 13 RADIO_A_EN (out), 14 LNA_A_CTRL (out), 15 PA_A_CTRL (out), 16 NC, 17 PA_GAIN[1] (out), 18 PA_GAIN[0] (out), 19 RADIO_B_CS (out), 20 RADIO_B_MOSI (out), 21 RADIO_B_MISO (in), 22 RADIO_B_SCK (out), 23 VCC_1V8 (power), 24 VSS (power), 25 RADIO_RST (out), 26 PA_B_CTRL (out), 27 LNA_B_CTRL (out), 28 RADIO_B_EN (out), 29 VCC33 (power), 30 VSS (power), 31 VSS (power), 32 NC, 33 NC, 34 SP_VALID (in), 35 B_IQ_RX (in), 36 B_QI_RX (in), 37 B_IQ_TX (out), 38 B_QI_TX (out), 39 SP_CLK_OUT (out), 40 GND (power), 41 GND (power), 42 VCC_1V8 (power), 43 CLK32M (in), 44 A_IQ_RX (in), 45 A_QI_RX (in), 46 A_IQ_TX (out), 47 A_QI_TX (out), 48 NC, 49 NC, 50 VSS (power), 51 VSS (power), 52 VCC33 (power), 53 CLKHS (in), 54 GPIO[4] (io), 55 GPIO[3] (io), 56 GPIO[2] (io), 57 GPIO[1] (io), 58 GPIO[0] (io), 59 VSS (power), 60 VCC18 (power), 61 RADIO_A_SCK (out), 62 RADIO_A_MISO (in), 63 RADIO_A_MOSI (out), 64 RADIO_A_CS (out), 65 VSS (power)

## IC-TCD1304AP
designator U?, comment TCD1304AP
Linear CCD 3964 Pixels; Manufacturer: Toshiba; Manufacturer Part No.: TCD1304AP
footprint IC-TCD1304AP (Linear CCD (TCD1304AP))
pins: 1 VDD (power), 2 VAD (power), 3 ICG (in), 4 MCLK (in), 5 SHIFT (in), 6 GND (power), 7 GND (power), 8 GND (power), 9 GND, 10 GND (power), 11 GND, 12 GND, 13 GND, 14 GND, 15 GND, 16 GND, 17 GND, 18 GND, 19 GND, 20 GND, 21 OS (out), 22 GND (power)

## IC-TVS-RClamp0504S
designator U?, comment RCLAMP0504S
TVS Array Low Capacitance; Manufacturer: Semtech; Manufacturer Part Number: RCLAMP0504S
footprint IC-TVS-RClamp0504S (TVS Array Low Capacitance (RClamp0504S))
pins: 1, 2, 3, 4, 5, 6

## IC-TVS-TPD2EUSB30DRTR
designator U?, comment TPD2EUSB30DRTR
2 Channel Protection for Super Speed USB3.0; Manufacturer: TI; Manufacturer Part Number: TPD2EUSB30DRTR
footprint IC-TVS-TPD2EUSB30DRTR (2 CHANNEL PROTECTION SOLUTION FOR SUPER-SPEED (TPD2EUSB30DRTR))
pins: 1 D+ (power), 2 D- (power), 3 (power)

## JP-NC
designator JP?
Normally Closed Jumper
footprint JP-NC (Solder Bridge Normally Connected)
pins: 1, 2

## JP-NO
designator JP?
Normally Open Jumper
footprint JP-NO (Solder Bridge Normally Open)
pins: 1, 2

## L-3.3uH-ME3220-332MLB
designator L?, comment 3.3uH
Power Inductor 3.3uH, 1.6A, 138 mOhms (DRC), Shielded; Manufacturer Part Number: ME3220-332MLB; Manufacturer: Coilcraft; Tolerance: 20%; Rating: 1.6 A; DCR: 138 mOhms; Value: 3.3uH
footprint L-3.3uH-ME3220-332MLB (Fixed Inductors, ME3220, SMT Power, 3.3 uH, 20%, 1.6 A)
pins: 1, 2

## L-10uH-NRS8040T100MJGJV
designator L?, comment 10uH
Power Inductor 10uH, 3.8A, 34mOhm (DRC), Shielded; Manufacturer Part Number: NRS8040T100MJGJV; Manufacturer: Taiyo Yuden; Tolerance: 20%; Rating: 3.8A; Value: 10uH
footprint L-10uH-NRS8040T100MJGJV (Precision Wire Wound Inductor, 2-Leads (NRS8040T100MJGJV))
pins: 1, 2

## L-15uH- NRH3012T150MN
designator L?, comment 15uH
Inductor 15uH, 530mA, 450 mOhm (DRC), Shielded; Manufacturer Part Number: NRH3012T150MN; Manufacturer: Taiyo Yuden; Rating: 570 mA; Tolerance: 20%; DCR: 450 mOhms; Self Resonant: 26MHz; Test Frequency: 100kHz; Saturation Current: 530 mA; Value: 15uH
footprint L-15uH- NRH3012T150MN (Inductor 15uH, 530mA, 450 mOhm (DRC), Shielded)
pins: 1, 2

## L-22uH- SRR1280-220M
designator L?, comment 22uH
Inductor 22uH, 4.3A, 38.6 mOhm (DRC), Shielded; Manufacturer Part Number: SRR1280-220M; Manufacturer: Bourns Inc.; Tolerance: 20%; Saturation Current: 4.1A; Quality Factor: 20 @ 2.52MHz; Self Resonant: 11MHz; Test Frequency: 100kHz; Rating: 4.3A; DCR: 38.6 mOhm; Value: 22uH
footprint L-22uH- SRR1280-220M (Inductor 22uH, 4.3A, 38.6 mOhm (DRC), Shielded)
pins: 1, 2

## L-0402
designator L?
Inductor Generic Part; Tolerance: ppm; Rating: amp; Size: 0402; Value: Value
footprint L-0402 (Inductor, Generic, 0402)
pins: 1, 2

## L-0603
designator L?
Inductor Generic; Tolerance: ppm; Rating: amp; Size: 0603; Value: Value
footprint L-0603 (Inductor, Generic, 0603)
pins: 1, 2

## L-0805
designator L?
Inductor Generic; Tolerance: ppm; Rating: amp; Size: 0805; Value: Value
footprint L-0805 (Inductor, Generic, 0805)
pins: 1, 2

## L-1206
designator L?
Inductor Generic; Tolerance: ppm; Rating: amp; Size: 1206; Value: Value
footprint L-1206 (Inductor, Generic, 1206)
pins: 1, 2

## L-CCM-DLW21HN900SQ2
designator L?, comment 90R@100MHz
Common Mode Choke High Speed 90R 330mA; Manufacturer: Murata; Manufacturer Part Number: DLW21HN900SQ2; Tolerance: 25%; Rating: 330mA; Value: 90R@100MHz
footprint L-CCM-DLW21HN900SQ2 (Common Mode Choke Murata (DLW21HN900SQ2))
pins: 1, 2, 3, 4

## L-GENERIC
designator L?
Inductor Generic Part; Tolerance: ppm; Rating: amp; Value: Value
pins: 1, 2

## LED-GENERIC
designator D?  (value not drawn)
Light Emitting Diode; Value: Value
pins: 1, 2

## MCU-NRF52832
designator U?, comment nrf52832
BLE SoC ARM Cortex M4; Manufacturer: Nordic; BLE Version: 5; Manufacturer Part No.: nrf52832
footprint MCU-NRF52832 (NRF52832 BLE ARM SoC)
pins: 1 DEC1, 2 P0.00/XL1 (io), 3 P0.01/XL2 (io), 4 P0.02/AIN0 (io), 5 P0.03/AIN1 (io), 6 P0.04/AIN2 (io), 7 P0.05/AIN3 (io), 8 P0.06 (io), 9 P0.07 (io), 10 P0.08 (io), 11 P0.09/NFC1 (io), 12 P0.10/NFC2 (io), 13 VDD (power), 14 P0.11 (io), 15 P0.12 (io), 16 P0.13 (io), 17 P0.14/TD[3] (io), 18 P0.15/TD[2] (io), 19 P0.16/TD[1] (io), 20 P0.17 (io), 21 P0.18/TD[0]/SWO (io), 22 P0.19 (io), 23 P0.20/TCLK (io), 24 P0.21/nRST (io), 25 SWDCLK (in), 26 SWDIO (io), 27 P0.22 (io), 28 P0.23 (io), 29 P0.24 (io), 30 ANT (io), 31 VSS (power), 32 DEC2, 33 DEC3, 34 XC1, 35 XC2, 36 VDD (power), 37 P0.25 (io), 38 P0.26 (io), 39 P0.27 (io), 40 P0.28/AIN4 (io), 41 P0.29/AIN5 (io), 42 P0.30/AIN6 (io), 43 P0.31/AIN7 (io), 44 NC, 45 VSS (power), 46 DEC4, 47 DCC (hiz), 48 VDD (power), 49 PAD (power)

## MCU-PIC24EP256GP204
designator U?, comment PIC24EP256GP204
Microchip's 16-Bit MCU; Manufacturer: Microship; Manufacturer Part No.: PIC24EP256GP204
footprint MCU-PIC24EP256GP204 (PIC24EPGP214 16-Bit, TQFP)
pins: 1 RB9/RP41 (io), 2 RC6/RP54 (io), 3 RC7/RP55 (io), 4 RC8/RP56 (io), 5 RC9/RP57 (io), 6 VSS (power), 7 VCAP, 8 RB10/RP42 (io), 9 RB11/RP43 (io), 10 RB12/RPI44 (io), 11 RB13/RPI45 (io), 12 RA10 (io), 13 RA7 (io), 14 RB14/RPI46 (io), 15 RB15/RPI47 (io), 16 AVSS (power), 17 AVDD (power), 18 ~{MCLR} (in), 19 AN0/RA0 (io), 20 AN1/RA1 (io), 21 AN2/RB0/RPI32/VREF- (io), 22 AN3/RB1/RPI33/VREF+ (io), 23 AN4/RB2 (io), 24 AN5/RB3 (io), 25 AN6/RC0 (io), 26 AN7/RC1 (in), 27 AN8/RC2 (io), 28 VDD (power), 29 VSS (power), 30 OSC1, 31 OSC2, 32 RA8/RPI24 (io), 33 RB4/RP36 (io), 34 RA4/RP20 (io), 35 RA9/RPI25 (io), 36 RC3/RPI51 (io), 37 RC4/RPI52 (io), 38 RC5/RPI53 (io), 39 VSS (power), 40 VDD (power), 41 PGED2, 42 PGEC2, 43 RB7/RP39 (io), 44 RB8/RP40 (io)

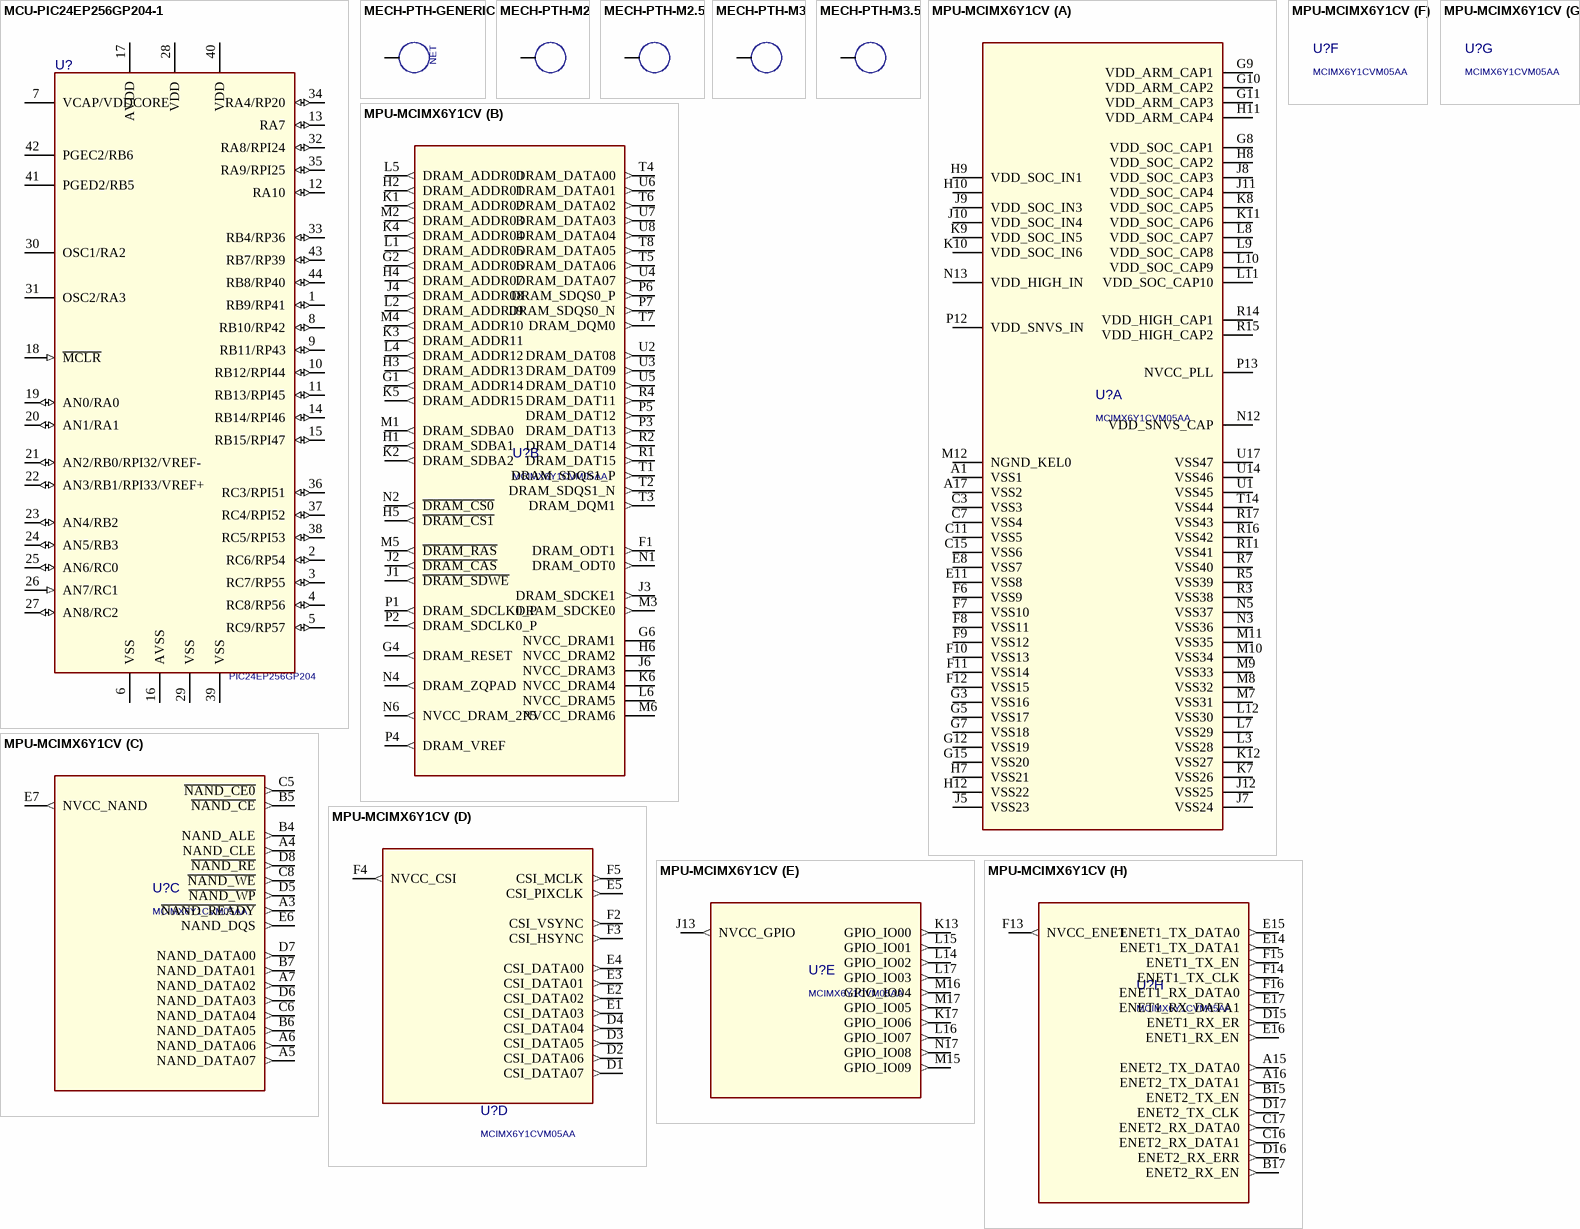
[diagram p4: symbols MCU-PIC24EP256GP204-1 to MPU-MCIMX6Y1CV]

## MCU-PIC24EP256GP204-1
designator U?, comment PIC24EP256GP204
Microchip's 16-Bit MCU; Manufacturer: Microship; Manufacturer Part No.: PIC24EP256GP204
footprint MCU-PIC24EP256GP204 (PIC24EPGP214 16-Bit, TQFP)
pins: 1 RB9/RP41 (io), 2 RC6/RP54 (io), 3 RC7/RP55 (io), 4 RC8/RP56 (io), 5 RC9/RP57 (io), 6 VSS (power), 7 VCAP/VDDCORE, 8 RB10/RP42 (io), 9 RB11/RP43 (io), 10 RB12/RPI44 (io), 11 RB13/RPI45 (io), 12 RA10 (io), 13 RA7 (io), 14 RB14/RPI46 (io), 15 RB15/RPI47 (io), 16 AVSS (power), 17 AVDD (power), 18 ~{MCLR} (in), 19 AN0/RA0 (io), 20 AN1/RA1 (io), 21 AN2/RB0/RPI32/VREF- (io), 22 AN3/RB1/RPI33/VREF+ (io), 23 AN4/RB2 (io), 24 AN5/RB3 (io), 25 AN6/RC0 (io), 26 AN7/RC1 (in), 27 AN8/RC2 (io), 28 VDD (power), 29 VSS (power), 30 OSC1/RA2, 31 OSC2/RA3, 32 RA8/RPI24 (io), 33 RB4/RP36 (io), 34 RA4/RP20 (io), 35 RA9/RPI25 (io), 36 RC3/RPI51 (io), 37 RC4/RPI52 (io), 38 RC5/RPI53 (io), 39 VSS (power), 40 VDD (power), 41 PGED2/RB5, 42 PGEC2/RB6, 43 RB7/RP39 (io), 44 RB8/RP40 (io)

## MECH-PTH-GENERIC
designator U?, comment NET
Mounting Hole; Connection: NET
pins: 1

## MECH-PTH-M2
designator U?, comment NET  (value not drawn)
Mounting Hole; Type: M2; Connection: NET
footprint MEC-PTH-M2-Loose (Mounting Hole, PTH, Pan Head, Loose Fit)
pins: 1

## MECH-PTH-M2.5
designator U?, comment NET  (value not drawn)
Mounting Hole; Type: M2.5; Connection: NET
footprint MEC-PTH-M2.5-Loose (Mounting Hole, PTH, Pan Head, Loose Fit)
pins: 1

## MECH-PTH-M3
designator U?, comment NET  (value not drawn)
Mounting Hole; Type: M3; Connection: NET
footprint MEC-PTH-M3-Loose (Mounting Hole, PTH, Pan Head, Loose Fit)
pins: 1

## MECH-PTH-M3.5
designator U?, comment NET  (value not drawn)
Mounting Hole; Type: M3.5; Connection: NET
footprint MEC-PTH-M3.5-Loose (Mounting Hole, PTH, Pan Head, Loose Fit)
pins: 1

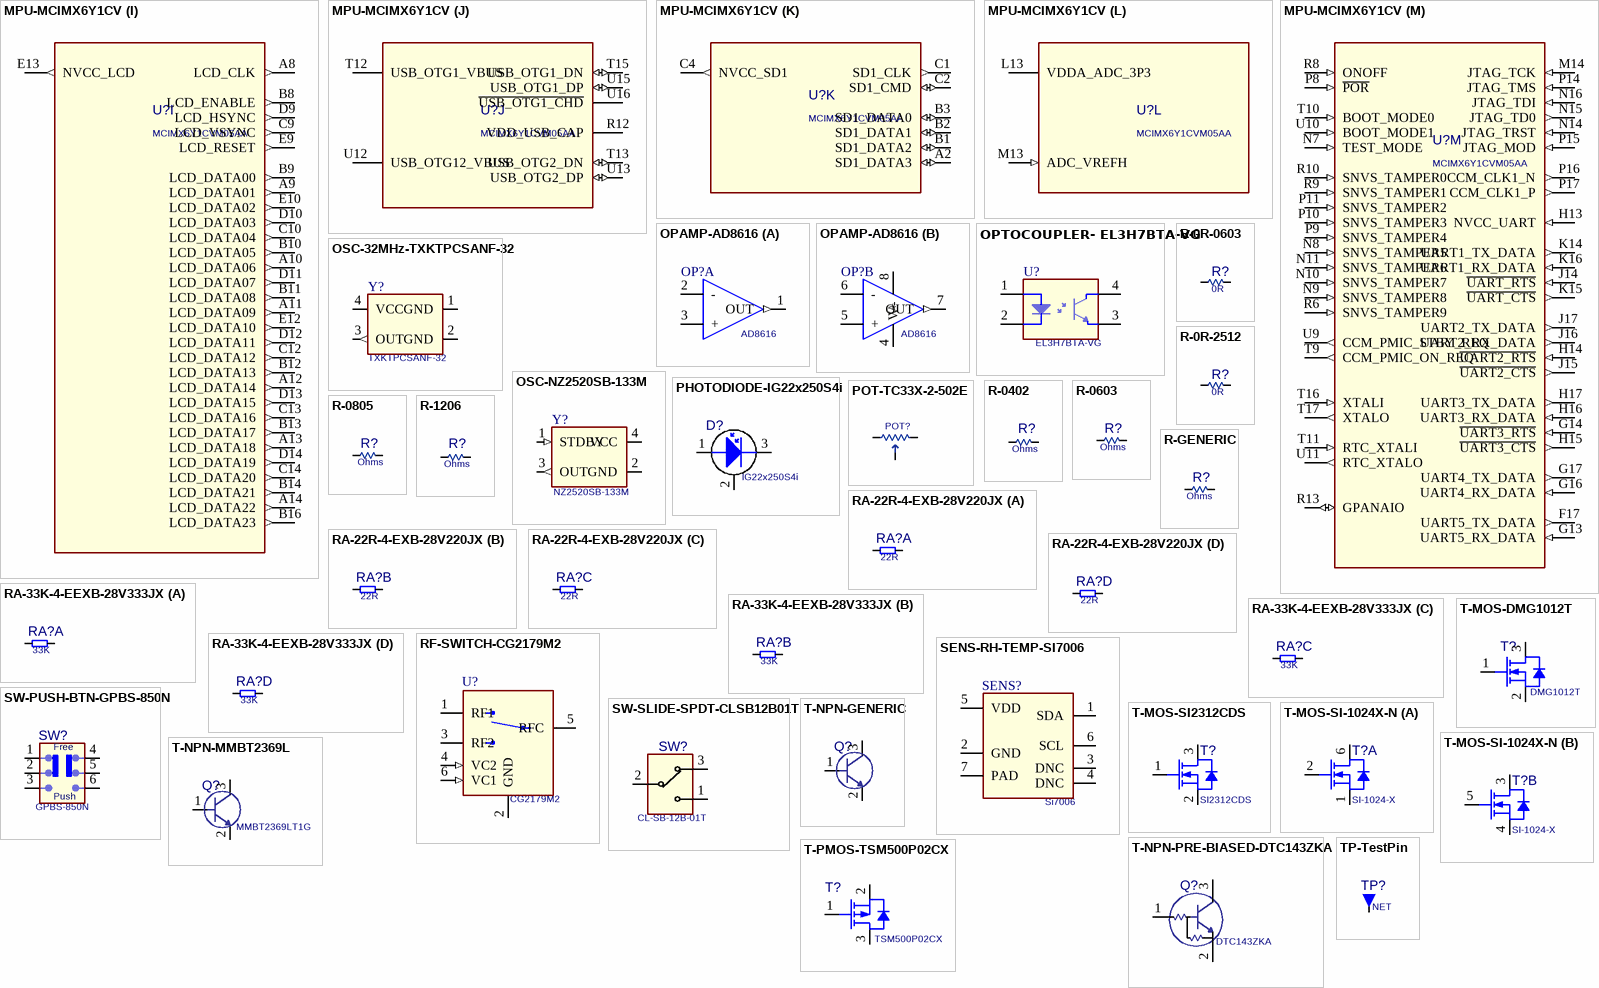
[diagram p5: symbols MPU-MCIMX6Y1CV to TP-TestPin]

## MPU-MCIMX6Y1CV
designator U?, comment MCIMX6Y1CVM05AA
NXP's ARM Cortex A7 with Multimedia; Manufacturer Part No.: MCIMX6Y1CVM05AA
part A pins: A1 VSS1 (power), A17 VSS2 (power), C3 VSS3 (power), C7 VSS4 (power), C11 VSS5 (power), C15 VSS6 (power), E8 VSS7 (power), E11 VSS8 (power), F6 VSS9 (power), F7 VSS10 (power), F8 VSS11 (power), F9 VSS12 (power), F10 VSS13 (power), F11 VSS14 (power), F12 VSS15 (power), G3 VSS16 (power), G5 VSS17 (power), G7 VSS18 (power), G8 VDD_SOC_CAP1 (power), G9 VDD_ARM_CAP1 (power), G10 VDD_ARM_CAP2 (power), G11 VDD_ARM_CAP3 (power), G12 VSS19 (power), G15 VSS20 (power), H7 VSS21 (power), H8 VDD_SOC_CAP2 (power), H9 VDD_SOC_IN1 (power), H10 VDD_SOC_IN2 (power), H11 VDD_ARM_CAP4 (power), H12 VSS22 (power), J5 VSS23 (power), J7 VSS24 (power), J8 VDD_SOC_CAP3 (power), J9 VDD_SOC_IN3 (power), J10 VDD_SOC_IN4 (power), J11 VDD_SOC_CAP4 (power), J12 VSS25 (power), K7 VSS26 (power), K8 VDD_SOC_CAP5 (power), K9 VDD_SOC_IN5 (power), K10 VDD_SOC_IN6 (power), K11 VDD_SOC_CAP6 (power), K12 VSS27 (power), L3 VSS28 (power), L7 VSS29 (power), L8 VDD_SOC_CAP7 (power), L9 VDD_SOC_CAP8 (power), L10 VDD_SOC_CAP9 (power), L11 VDD_SOC_CAP10 (power), L12 VSS30 (power), M7 VSS31 (power), M8 VSS32 (power), M9 VSS33 (power), M10 VSS34 (power), M11 VSS35 (power), M12 NGND_KEL0 (power), N3 VSS36 (power), N5 VSS37 (power), N12 VDD_SNVS_CAP (power), N13 VDD_HIGH_IN (power), P12 VDD_SNVS_IN (power), P13 NVCC_PLL (power), R3 VSS38 (power), R5 VSS39 (power), R7 VSS40 (power), R11 VSS41 (power), R14 VDD_HIGH_CAP1 (power), R15 VDD_HIGH_CAP2 (power), R16 VSS42 (power), R17 VSS43 (power), T14 VSS44 (power), U1 VSS45 (power), U14 VSS46 (power), U17 VSS47 (power)
part B pins: F1 DRAM_ODT1 (out), G1 DRAM_ADDR14 (out), G2 DRAM_ADDR06 (out), G4 DRAM_RESET (out), G6 NVCC_DRAM1 (power), H1 DRAM_SDBA1 (out), H2 DRAM_ADDR01 (out), H3 DRAM_ADDR13 (out), H4 DRAM_ADDR07 (out), H5 ~{DRAM_CS1} (out), H6 NVCC_DRAM2 (power), J1 ~{DRAM_SDWE} (out), J2 ~{DRAM_CAS} (out), J3 DRAM_SDCKE1 (out), J4 DRAM_ADDR08 (out), J6 NVCC_DRAM3 (power), K1 DRAM_ADDR02 (out), K2 DRAM_SDBA2 (out), K3 DRAM_ADDR11 (out), K4 DRAM_ADDR04 (out), K5 DRAM_ADDR15 (out), K6 NVCC_DRAM4 (power), L1 DRAM_ADDR05 (out), L2 DRAM_ADDR09 (out), L4 DRAM_ADDR12 (out), L5 DRAM_ADDR00 (out), L6 NVCC_DRAM5 (power), M1 DRAM_SDBA0 (out), M2 DRAM_ADDR03 (out), M3 DRAM_SDCKE0 (out), M4 DRAM_ADDR10 (out), M5 ~{DRAM_RAS} (out), M6 NVCC_DRAM6 (power), N1 DRAM_ODT0 (out), N2 ~{DRAM_CS0} (out), N4 DRAM_ZQPAD (out), N6 NVCC_DRAM_2P5 (out), P1 DRAM_SDCLK0_P (out), P2 DRAM_SDCLK0_P (out), P3 DRAM_DAT13 (out), P4 DRAM_VREF (out), P5 DRAM_DAT12 (out), P6 DRAM_SDQS0_P (out), P7 DRAM_SDQS0_N (out), R1 DRAM_DAT15 (out), R2 DRAM_DAT14 (out), R4 DRAM_DAT11 (out), T1 DRAM_SDQS1_P (out), T2 DRAM_SDQS1_N (out), T3 DRAM_DQM1 (out), T4 DRAM_DATA00 (out), T5 DRAM_DATA06 (out), T6 DRAM_DATA02 (out), T7 DRAM_DQM0 (out), T8 DRAM_DATA05 (out), U2 DRAM_DAT08 (out), U3 DRAM_DAT09 (out), U4 DRAM_DATA07 (out), U5 DRAM_DAT10 (out), U6 DRAM_DATA01 (out), U7 DRAM_DATA03 (out), U8 DRAM_DATA04 (out)
part C pins: A3 ~{NAND_READY} (out), A4 NAND_CLE (out), A5 NAND_DATA07 (out), A6 NAND_DATA06 (out), A7 NAND_DATA02 (out), B4 NAND_ALE (out), B5 ~{NAND_CE} (out), B6 NAND_DATA05 (out), B7 NAND_DATA01 (out), C5 ~{NAND_CE0} (out), C6 NAND_DATA04 (out), C8 ~{NAND_WE} (out), D5 ~{NAND_WP} (out), D6 NAND_DATA03 (out), D7 NAND_DATA00 (out), D8 ~{NAND_RE} (out), E6 NAND_DQS (out), E7 NVCC_NAND (out)
part D pins: D1 CSI_DATA07 (out), D2 CSI_DATA06 (out), D3 CSI_DATA05 (out), D4 CSI_DATA04 (out), E1 CSI_DATA03 (out), E2 CSI_DATA02 (out), E3 CSI_DATA01 (out), E4 CSI_DATA00 (out), E5 CSI_PIXCLK (out), F2 CSI_VSYNC (out), F3 CSI_HSYNC (out), F4 NVCC_CSI (out), F5 CSI_MCLK (out)
part E pins: J13 NVCC_GPIO (out), K13 GPIO_IO00 (out), K17 GPIO_IO06 (out), L14 GPIO_IO02 (out), L15 GPIO_IO01 (out), L16 GPIO_IO07 (out), L17 GPIO_IO03 (out), M15 GPIO_IO09 (out), M16 GPIO_IO04 (out), M17 GPIO_IO05 (out), N17 GPIO_IO08 (out)
part H pins: A15 ENET2_TX_DATA0 (out), A16 ENET2_TX_DATA1 (out), B15 ENET2_TX_EN (out), B17 ENET2_RX_EN (out), C16 ENET2_RX_DATA1 (out), C17 ENET2_RX_DATA0 (out), D15 ENET1_RX_ER (out), D16 ENET2_RX_ERR (out), D17 ENET2_TX_CLK (out), E14 ENET1_TX_DATA1 (out), E15 ENET1_TX_DATA0 (out), E16 ENET1_RX_EN (out), E17 ENET1_RX_DATA1 (out), F13 NVCC_ENET (out), F14 ENET1_TX_CLK (out), F15 ENET1_TX_EN (out), F16 ENET1_RX_DATA0 (out)
part I pins: A8 LCD_CLK (out), A9 LCD_DATA01 (out), A10 LCD_DATA06 (out), A11 LCD_DATA09 (out), A12 LCD_DATA14 (out), A13 LCD_DATA18 (out), A14 LCD_DATA22 (out), B8 LCD_ENABLE (out), B9 LCD_DATA00 (out), B10 LCD_DATA05 (out), B11 LCD_DATA08 (out), B12 LCD_DATA13 (out), B13 LCD_DATA17 (out), B14 LCD_DATA21 (out), B16 LCD_DATA23 (out), C9 LCD_VSYNC (out), C10 LCD_DATA04 (out), C12 LCD_DATA12 (out), C13 LCD_DATA16 (out), C14 LCD_DATA20 (out), D9 LCD_HSYNC (out), D10 LCD_DATA03 (out), D11 LCD_DATA07 (out), D12 LCD_DATA11 (out), D13 LCD_DATA15 (out), D14 LCD_DATA19 (out), E9 LCD_RESET (out), E10 LCD_DATA02 (out), E12 LCD_DATA10 (out), E13 NVCC_LCD (out)
part J pins: R12 VDD_USB_CAP, T12 USB_OTG1_VBUS (power), T13 USB_OTG2_DN (io), T15 USB_OTG1_DN (io), U12 USB_OTG12_VBUS (power), U13 USB_OTG2_DP (io), U15 USB_OTG1_DP (io), U16 ~{USB_OTG1_CHD} (power)
part K pins: A2 SD1_DATA3 (io), B1 SD1_DATA2 (io), B2 SD1_DATA1 (io), B3 SD1_DATA0 (io), C1 SD1_CLK (out), C2 SD1_CMD (io), C4 NVCC_SD1 (out)
part L pins: L13 VDDA_ADC_3P3 (power), M13 ADC_VREFH (in)
part M pins: F17 UART5_TX_DATA (out), G13 UART5_RX_DATA (in), G14 ~{UART3_RTS} (in), G16 UART4_RX_DATA (in), G17 UART4_TX_DATA (out), H13 NVCC_UART (in), H14 ~{UART2_RTS} (in), H15 ~{UART3_CTS} (out), H16 UART3_RX_DATA (in), H17 UART3_TX_DATA (out), J14 ~{UART_RTS} (in), J15 ~{UART2_CTS} (out), J16 UART2_RX_DATA (out), J17 UART2_TX_DATA (out), K14 UART1_TX_DATA (out), K15 ~{UART_CTS} (out), K16 UART1_RX_DATA (in), M14 JTAG_TCK (in), N7 TEST_MODE (in), N8 SNVS_TAMPER5 (in), N9 SNVS_TAMPER8 (in), N10 SNVS_TAMPER7 (in), N11 SNVS_TAMPER6 (in), N14 JTAG_TRST (in), N15 JTAG_TD0 (out), N16 JTAG_TDI (in), P8 ~{POR} (in), P9 SNVS_TAMPER4 (in), P10 SNVS_TAMPER3 (in), P11 SNVS_TAMPER2 (in), P14 JTAG_TMS (in), P15 JTAG_MOD (in), P16 CCM_CLK1_N (out), P17 CCM_CLK1_P (out), R6 SNVS_TAMPER9 (in), R8 ONOFF (in), R9 SNVS_TAMPER1 (in), R10 SNVS_TAMPER0 (in), R13 GPANAIO (io), T9 CCM_PMIC_ON_REQ (out), T10 BOOT_MODE0 (in), T11 RTC_XTALI (in), T16 XTALI (in), T17 XTALO (out), U9 CCM_PMIC_STBY_REQ (out), U10 BOOT_MODE1 (in), U11 RTC_XTALO (out)

## OPAMP-AD8616
designator OP?, comment AD8616
Precision, 20 MHz, CMOS, Rail-to-Rail  Input/Output Operational Amplifiers; Manufacturer: Analog Devices; Number of Circuits: 2; Gain Bandwidth Product: 24 MHz; Slew Rate: 12 V/us; Input Bias Current: 0.2pA; Input Offset Voltage: 23 uV; Output Current Max.: 150 mA; Current Supply: 1.7mA; Output Type: Rail-to-Rail; Manufacturer Part No.: AD8616
footprint OPAMP-AD8616 (Precision, 20 MHz, CMOS, Rail-to-Rail  Input/Output Operational Amplifiers)
part A pins: 1 OUT (out), 2 -, 3 +
part B pins: 4 V-, 5 +, 6 -, 7 OUT (out), 8 V+ (power)

## OPTOCOUPLER- EL3H7BTA-VG‎
designator U?, comment EL3H7BTA-VG
Optoisolator Transistor Output 3750Vrms; Manufacturer: Everlight Electronics Co Ltd; CRT: 130 - 150 % @ 5mA; Output: Transistor; Manufacturer Part No.: EL3H7BTA-VG
footprint OPTOCOUPLER- EL3H7BTA-VG? (Optoisolator Transistor Output 3750Vrms)
pins: 1 Anode, 2 Cathode, 3 Emitter, 4 Collector